# Altium integrated library Peace的集成库.IntLib: 214 symbols (part 2 of 3)
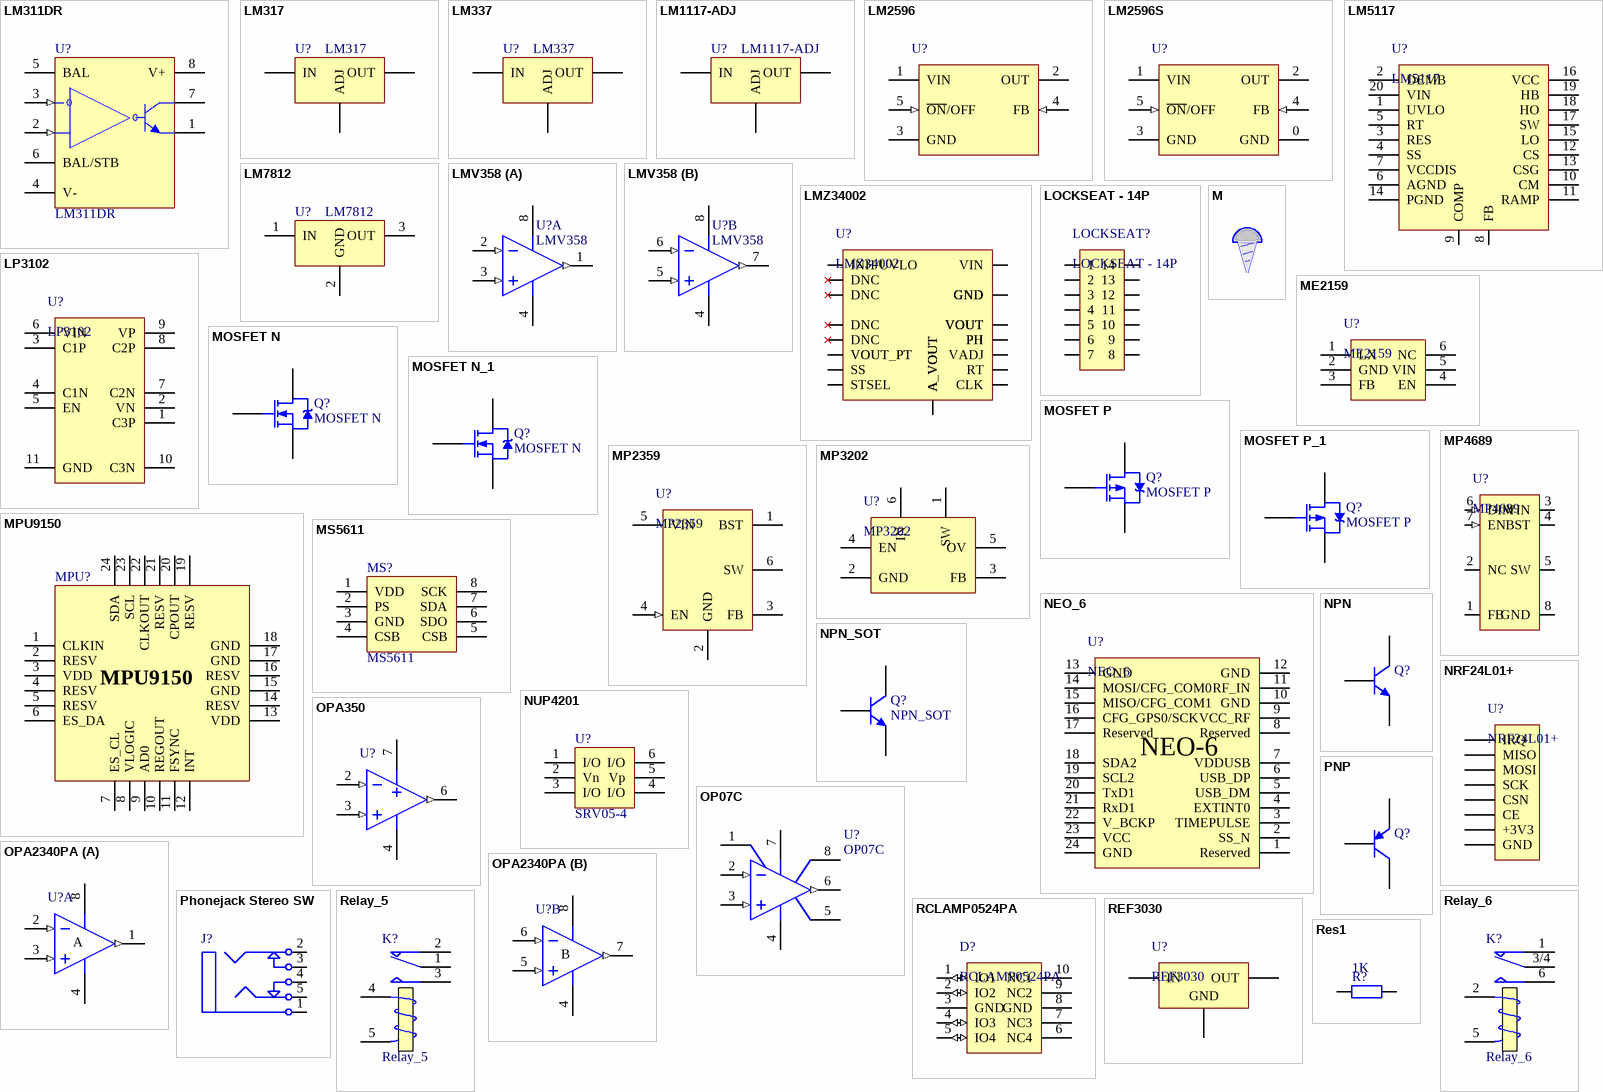
[diagram p9: symbols LM311DR to Res1]

## LM5117
designator U?
footprint TSSOP20_M (TSOP, 20-Leads, Body 6.5x4.4mm, Pitch 0.65mm, IPC Low Density)
pins: 1 UVLO, 2 DEMB, 3 RES, 4 SS, 5 RT, 6 AGND, 7 VCCDIS, 8 FB, 9 COMP, 10 CM, 11 RAMP, 12 CS, 13 CSG, 14 PGND, 15 LO, 16 VCC, 17 SW, 18 HO, 19 HB, 20 VIN

## LM7812
designator U?
footprint TO-220AB (TO, Thru-Hole, Vertical, Heatsink Mounted; 3 In-Line Leads; Pitch 2.54 mm)
pins: 1 IN, 2 GND, 3 OUT

## LMV358
designator U?
General Purpose, Low Voltage, Rail-to-Rail Output Operational Amplifiers, 8-pin Narrow SOIC; PartNumber: LMV358MX; Manufacturer: National Semiconductor; PackageTopMarking: NSZXTT*LMV*358M; PowerWise: N; Published: 1-Mar-2010; DatasheetVersion: Sep-2009; PackageVersion: revM, May-2009; PackageReference: M08A; Publisher: Altium Limited; PackageDescription: SOIC Narrow, 4.9 x 3.9 x 1.45mm, 8 Lead, 1.27mm Pitch; RoHS: N; PinCount: 8; CompType: Amplifiers; Code_JEDEC: MS-012-AA; Code_IPC: SOIC127P600-8; ComponentLink1Description: LMV358 Datasheet; ComponentLink1URL: http://www.national.com/ds/LM/LMV358.pdf; ComponentLink2Description: LMV358 Web Page; ComponentLink2URL: http://www.national.com/pf/LM/LMV358.html; ComponentLink3Description: M08A Package Page; ComponentLink3URL: http://www.national.com/packaging/folders/m08a.html
simulation model LMV358 (SUBCKT)
footprint SOIC8_L (SOIC, 8-Leads, Body 4.9x3.9mm, Pitch 1.27mm, IPC High Density)
footprint SOIC8_M (SOIC, 8-Leads, Body 4.9x3.9mm, Pitch 1.27mm, IPC Low Density)
footprint SOIC8_N (SOIC, 8-Leads, Body 4.9x3.9mm, Pitch 1.27mm, IPC Medium Density)
pins on every part: 4 V- (power), 8 V+ (power)
part A pins: 1 OUTA (out), 2 INA- (in), 3 INA+ (in)
part B pins: 5 INB+ (in), 6 INB- (in), 7 OUTB (out)

## LMZ34002
designator U?
footprint LMZ34002 (QFN, 32-Leads, Body 11.00x9.00mm, Pitch 0.90mm, IPC Low Density)
pins: 1 A_VOUT, 2 DNC, 3 DNC, 4 A_VOUT, 5 A_VOUT, 6 PH, 7 PH, 8 VOUT_PT, 9 VOUT_PT, 10 GND, 11 GND, 12 GND, 13 GND, 14 GND, 15 GND, 16 VOUT, 17 VOUT, 18 VOUT, 19 VOUT, 20 VOUT, 21 PH, 22 PH, 23 PH, 24 PH, 25 DNC, 26 VIN, 27 INH/UVLO, 28 SS, 29 STSEL, 30 RT, 31 CLK, 32 A_VOUT, 33 A_VOUT, 34 A_VOUT, 35 DNC, 36 VADJ, 37 A_VOUT, 38 PH, 39 GND, 40 VOUT, 41 PH

## LOCKSEAT - 14P
designator LOCKSEAT?
footprint LOCKSEAT - 14P
pins: 1, 2, 3, 4, 5, 6, 7, 8, 9, 10, 11, 12, 13, 14

## LP3102
designator U?
footprint LP3102 (SON, 10-Leads, Body 3.00x3.00mm, Pitch 0.50mm, Thermal Pad 2.50x1.49mm, IPC Medium Density)
pins: 1 C3P, 2 VN, 3 C1P, 4 C1N, 5 EN, 6 VIN, 7 C2N, 8 C2P, 9 VP, 10 C3N, 11 GND

## M
designator M?  (value not drawn)
footprint TAPPING HOLE (M3)
footprint 电源底板-小
footprint M2 (M2自攻螺丝)

## ME2159
designator U?
1A 升压DC-DC
footprint SOT23-6_L (SOT23, 6-Leads, Body 2.9x1.6mm, Pitch 0.95mm, Lead Span 2.7mm, IPC High Density)
footprint SOT23-6_M (SOT23, 6-Leads, Body 2.9x1.6mm, Pitch 0.95mm, Lead Span 2.7mm, IPC Low Density)
footprint SOT23-6_N (SOT23, 6-Leads, Body 2.9x1.6mm, Pitch 0.95mm, Lead Span 2.7mm, IPC Medium Density)
pins: 1 LX, 2 GND, 3 FB, 4 EN, 5 VIN, 6 NC

## MOSFET N
designator Q?
HEXFET Power MOSFET; Published: 17-Sep-2003; DatasheetVersion: PD-9.486C; PackageReference: TO-254AA; Publisher: Altium Limited; PackageDescription: TO, Thru-Hole, Vertical, Heatsink Mounted; 3 In-Line Leads; Pitch 3.81 mm; Code_JEDEC: TO-254-AA; ComponentLink1Description: Manufacturer Link; ComponentLink1URL: http://www.irf.com/; ComponentLink2Description: Datasheet; ComponentLink2URL: http://www.irf.com/product-info/datasheets/data/IRFM460.pdf
footprint TO-220AB (TO, Thru-Hole, Vertical, Heatsink Mounted; 3 In-Line Leads; Pitch 2.54 mm)
pins: 1 G, 2 D, 3 S

## MOSFET N_1
designator Q?, comment MOSFET N
HEXFET Power MOSFET; Published: 17-Sep-2003; DatasheetVersion: PD-9.486C; PackageReference: TO-254AA; Publisher: Altium Limited; PackageDescription: TO, Thru-Hole, Vertical, Heatsink Mounted; 3 In-Line Leads; Pitch 3.81 mm; Code_JEDEC: TO-254-AA; ComponentLink1Description: Manufacturer Link; ComponentLink1URL: http://www.irf.com/; ComponentLink2Description: Datasheet; ComponentLink2URL: http://www.irf.com/product-info/datasheets/data/IRFM460.pdf
footprint SOT23_L (SOT23, 3-Leads, Body 2.9x1.3mm, Pitch 0.95mm, Lead Span 2.3mm - Reverse Pinning, IPC High Density)
footprint SOT23_M (SOT23, 3-Leads, Body 2.9x1.3mm, Pitch 0.95mm, Lead Span 2.3mm - Reverse Pinning, IPC Low Density)
footprint SOT23_N (SOT23, 3-Leads, Body 2.9x1.3mm, Pitch 0.95mm, Lead Span 2.3mm - Reverse Pinning, IPC Medium Density)
pins: 1 D, 2 S, 3 G

## MOSFET P
designator Q?
Radiation Hardened HEXFET Power MOSFET; Published: 17-Sep-2003; DatasheetVersion: 13-Jun-2002; PackageVersion: Aug-2001; PackageReference: TO-257AA; Publisher: Altium Limited; PackageDescription: TO, Thru-Hole, Vertical, Heatsink Mounted; 3 In-Line Leads; Pitch 2.54 mm; ComponentLink1Description: Manufacturer Link; ComponentLink1URL: http://www.irf.com/; ComponentLink2Description: Datasheet; ComponentLink2URL: http://www.irf.com/product-info/datasheets/data/irhy9130cm.pdf
footprint TO-220AB (TO, Thru-Hole, Vertical, Heatsink Mounted; 3 In-Line Leads; Pitch 2.54 mm)
pins: 1 G, 2 D, 3 S

## MOSFET P_1
designator Q?, comment MOSFET P
Radiation Hardened HEXFET Power MOSFET; Published: 17-Sep-2003; DatasheetVersion: 13-Jun-2002; PackageVersion: Aug-2001; PackageReference: TO-257AA; Publisher: Altium Limited; PackageDescription: TO, Thru-Hole, Vertical, Heatsink Mounted; 3 In-Line Leads; Pitch 2.54 mm; ComponentLink1Description: Manufacturer Link; ComponentLink1URL: http://www.irf.com/; ComponentLink2Description: Datasheet; ComponentLink2URL: http://www.irf.com/product-info/datasheets/data/irhy9130cm.pdf
footprint SOT23_L (SOT23, 3-Leads, Body 2.9x1.3mm, Pitch 0.95mm, Lead Span 2.3mm - Reverse Pinning, IPC High Density)
footprint SOT23_M (SOT23, 3-Leads, Body 2.9x1.3mm, Pitch 0.95mm, Lead Span 2.3mm - Reverse Pinning, IPC Low Density)
footprint SOT23_N (SOT23, 3-Leads, Body 2.9x1.3mm, Pitch 0.95mm, Lead Span 2.3mm - Reverse Pinning, IPC Medium Density)
pins: 1 D, 2 S, 3 G

## MP2359
designator U?
1.2A, 24V, 1.4MHz异步降压转换器
footprint SOT23-6_L (SOT23, 6-Leads, Body 2.9x1.6mm, Pitch 0.95mm, Lead Span 2.7mm, IPC High Density)
footprint SOT23-6_M (SOT23, 6-Leads, Body 2.9x1.6mm, Pitch 0.95mm, Lead Span 2.7mm, IPC Low Density)
footprint SOT23-6_N (SOT23, 6-Leads, Body 2.9x1.6mm, Pitch 0.95mm, Lead Span 2.7mm, IPC Medium Density)
pins: 1 BST, 2 GND (power), 3 FB, 4 EN (in), 5 VIN (power), 6 SW

## MP3202
designator U?
1.3A LED驱动(3串13并)
footprint SOT23-6_L (SOT23, 6-Leads, Body 2.9x1.6mm, Pitch 0.95mm, Lead Span 2.7mm, IPC High Density)
footprint SOT23-6_M (SOT23, 6-Leads, Body 2.9x1.6mm, Pitch 0.95mm, Lead Span 2.7mm, IPC Low Density)
footprint SOT23-6_N (SOT23, 6-Leads, Body 2.9x1.6mm, Pitch 0.95mm, Lead Span 2.7mm, IPC Medium Density)
pins: 1 SW, 2 GND, 3 FB, 4 EN, 5 OV, 6 IN

## MP4689
designator U?
footprint SOIC8_L (SOIC, 8-Leads, Body 4.9x3.9mm, Pitch 1.27mm, IPC High Density)
footprint SOIC8_M (SOIC, 8-Leads, Body 4.9x3.9mm, Pitch 1.27mm, IPC Low Density)
footprint SOIC8_N (SOIC, 8-Leads, Body 4.9x3.9mm, Pitch 1.27mm, IPC Medium Density)
pins: 1 FB, 2 NC, 3 VIN (power), 4 BST, 5 SW, 6 DIM (in), 7 EN (in), 8 GND (power)

## MPU9150
designator MPU?
Sensor
footprint MPU9150
pins: 1 CLKIN, 2 RESV, 3 VDD, 4 RESV, 5 RESV, 6 ES_DA, 7 ES_CL, 8 VLOGIC, 9 AD0, 10 REGOUT, 11 FSYNC, 12 INT, 13 VDD, 14 RESV, 15 GND, 16 RESV, 17 GND, 18 GND, 19 RESV, 20 CPOUT, 21 RESV, 22 CLKOUT, 23 SCL, 24 SDA

## MS5611
designator MS?
Sensor
footprint MS5611
pins: 1 VDD, 2 PS, 3 GND, 4 CSB, 5 CSB, 6 SDO, 7 SDA, 8 SCK

## NEO_6
designator U?
footprint NEO_6
pins: 1 Reserved, 2 SS_N, 3 TIMEPULSE, 4 EXTINT0, 5 USB_DM, 6 USB_DP, 7 VDDUSB, 8 Reserved, 9 VCC_RF, 10 GND, 11 RF_IN, 12 GND, 13 GND, 14 MOSI/CFG_COM0, 15 MISO/CFG_COM1, 16 CFG_GPS0/SCK, 17 Reserved, 18 SDA2, 19 SCL2, 20 TxD1, 21 RxD1, 22 V_BCKP, 23 VCC, 24 GND
text: NEO-6

## NPN
designator Q?
NPN Bipolar Transistor; Published: 8-Jun-2000; LatestRevisionDate: 17-Jul-2002; LatestRevisionNote: Re-released for DXP Platform.; PackageReference: TO-226-AA; Publisher: Altium Limited; PackageDescription: TO, Flat Index; 3 In-Line, Axial Leads; Body Dia. 4.8mm; Leads 0.55 x 0.51 mm (max); Code_JEDEC: TO-226-AA
simulation model NPN
signal-integrity model NPN
footprint TO-226-AA (TO, Flat Index; 3 In-Line, Axial Leads; Body Dia. 4.8mm; Leads 0.55 x 0.51 mm (max))
pins: 1 E, 2 B, 3 C

## NPN_SOT
designator Q?
NPN Bipolar Transistor; Published: 8-Jun-2000; LatestRevisionDate: 17-Jul-2002; LatestRevisionNote: Re-released for DXP Platform.; PackageReference: TO-226-AA; Publisher: Altium Limited; PackageDescription: TO, Flat Index; 3 In-Line, Axial Leads; Body Dia. 4.8mm; Leads 0.55 x 0.51 mm (max); Code_JEDEC: TO-226-AA
footprint SOT23_L (SOT23, 3-Leads, Body 2.9x1.3mm, Pitch 0.95mm, Lead Span 2.3mm - Reverse Pinning, IPC High Density)
footprint SOT23_M (SOT23, 3-Leads, Body 2.9x1.3mm, Pitch 0.95mm, Lead Span 2.3mm - Reverse Pinning, IPC Low Density)
footprint SOT23_N (SOT23, 3-Leads, Body 2.9x1.3mm, Pitch 0.95mm, Lead Span 2.3mm - Reverse Pinning, IPC Medium Density)
pins: 1 C, 2 E, 3 B

## NRF24L01+
designator U?
footprint NRF24L01+
footprint NRF24L01
footprint NRF24L01_YBT (亿佰特E01-ML01DP5)
pins: 1 GND, 2 +3V3, 3 CE, 4 CSN, 5 SCK, 6 MOSI, 7 MISO, 8 IRQ

## NUP4201
designator U?, comment SRV05-4
footprint SOT23-6_L (SOT23, 6-Leads, Body 2.9x1.6mm, Pitch 0.95mm, Lead Span 2.7mm, IPC High Density)
footprint SOT23-6_M (SOT23, 6-Leads, Body 2.9x1.6mm, Pitch 0.95mm, Lead Span 2.7mm, IPC Low Density)
footprint SOT23-6_N (SOT23, 6-Leads, Body 2.9x1.6mm, Pitch 0.95mm, Lead Span 2.7mm, IPC Medium Density)
pins: 1 I/O, 2 Vn, 3 I/O, 4 I/O, 5 Vp, 6 I/O

## OP07C
designator U?
Ultra-Low Offset Voltage Operational Amplifier; Note: Pin 5 is not connected.; Published: 8-Jun-2000; LatestRevisionDate: 13-Apr-2006; LatestRevisionNote: IPC-7351 Footprint Added.; DatasheetVersion: 1992; PackageVersion: revA; PackageReference: SO-8; Publisher: Altium Limited; PackageDescription: 8-Pin Small Outline Integrated Circuit 1.27 mm Pitch; Code_JEDEC: MS-012-AA; Code_IPC: SOIC127P600-8; ComponentLink1Description: Manufacturer Link; ComponentLink1URL: http://www.analog.com/en/prod/0,,759_786_OP07%2C00.html; ComponentLink2Description: Datasheet; ComponentLink2URL: http://www.analog.com/UploadedFiles/Data_Sheets/39161232478959OP07_c.pdf
footprint SOIC8_L (SOIC, 8-Leads, Body 4.9x3.9mm, Pitch 1.27mm, IPC High Density)
footprint SOIC8_M (SOIC, 8-Leads, Body 4.9x3.9mm, Pitch 1.27mm, IPC Low Density)
footprint SOIC8_N (SOIC, 8-Leads, Body 4.9x3.9mm, Pitch 1.27mm, IPC Medium Density)
pins: 1 VOSTRIM, 2 IN- (in), 3 IN+ (in), 4 V- (power), 5 NC, 6 OUT (out), 7 V+ (power), 8 VOSTRIM

## OPA350
designator U?  (value not drawn)
footprint SOIC8_L (SOIC, 8-Leads, Body 4.9x3.9mm, Pitch 1.27mm, IPC High Density)
footprint SOIC8_N (SOIC, 8-Leads, Body 4.9x3.9mm, Pitch 1.27mm, IPC Medium Density)
footprint SOIC8_M (SOIC, 8-Leads, Body 4.9x3.9mm, Pitch 1.27mm, IPC Low Density)
pins: 2 IN- (in), 3 IN+ (in), 4 V- (power), 6 OUT (out), 7 V+ (power)

## OPA2340PA
designator U?  (value not drawn)
footprint DIP-8 (width 7.62mm)
part A pins: 1 OUT (out), 2 IN- (in), 3 IN+ (in), 4 V- (power), 8 V+ (power)
part B pins: 4 V- (power), 5 IN+ (in), 6 IN- (in), 7 OUT (out), 8 V+ (power)
part A text: A
part B text: B

## Phonejack Stereo SW
designator J?
3-Conductor Jack with 2 break contacts (normals) and 2 auxiliary make contacts; Published: 5-Jan-2004; LatestRevisionDate: 17-Dec-2003; LatestRevisionNote: PCB Footprint replaced.; DatasheetDocument: 07-Mar-2000; Publisher: Altium Limited; ComponentLink1Description: Manufacturer Link; ComponentLink1URL: http://domino.kycon.com/internet/Products.html
signal-integrity model Connector
footprint 3.5mm音频插口
pins: 1, 2, 3, 4, 5

## PNP
designator Q?
PNP Bipolar Transistor; Published: 8-Jun-2000; LatestRevisionDate: 29-May-2009; LatestRevisionNote: IPC-7351 Footprint Added.; PackageVersion: Aug-1999; PackageReference: SOT-23B; Publisher: Altium Limited; PackageDescription: 3-Pin SOT-23 Package 0.95 mm Pitch, 2.4 mm Lead Span
simulation model PNP
signal-integrity model PNP
footprint TO-226-AA (TO, Flat Index; 3 In-Line, Axial Leads; Body Dia. 4.8mm; Leads 0.55 x 0.51 mm (max))
pins: 1 E, 2 B, 3 C

## RCLAMP0524PA
designator D?
footprint SLP2510P8
pins: 1 IO1 (io), 2 IO2 (io), 3 GND (power), 4 IO3 (io), 5 IO4 (io), 6 NC4 (power), 7 NC3 (power), 8 GND (power), 9 NC2 (power), 10 NC1 (power)

## REF3030
designator U?
footprint SOT23_L (SOT23, 3-Leads, Body 2.9x1.3mm, Pitch 0.95mm, Lead Span 2.3mm - Reverse Pinning, IPC High Density)
footprint SOT23_M (SOT23, 3-Leads, Body 2.9x1.3mm, Pitch 0.95mm, Lead Span 2.3mm - Reverse Pinning, IPC Low Density)
footprint SOT23_N (SOT23, 3-Leads, Body 2.9x1.3mm, Pitch 0.95mm, Lead Span 2.3mm - Reverse Pinning, IPC Medium Density)
pins: 1 GND (power), 2 OUT (power), 3 IN (power)

## Relay_5
designator K?
SPDT Relay; Published: 8-Jun-2000; LatestRevisionDate: 17-Jul-2002; LatestRevisionNote: Re-released for DXP Platform.; PackageReference: MODULE5B; Publisher: Altium Limited
footprint relay19X15.5 (19X15.5)
pins: 1 COM, 2 NC, 3 NO, 4 T1, 5 T2

## Relay_6
designator K?
SPDT Relay; Published: 8-Jun-2000; LatestRevisionDate: 17-Jul-2002; LatestRevisionNote: Re-released for DXP Platform.; PackageReference: MODULE5B; Publisher: Altium Limited
footprint relay15.5X10.5 (15.5X10.5)
pins: 1 NC, 2 T1, 3 COM, 4 COM, 5 T2, 6 NO
text: 3/4

## Res1
designator R?  value 1K  (hidden comment: Res1)
Resistor; Published: 8-Jun-2000; LatestRevisionDate: 17-Jul-2002; LatestRevisionNote: Re-released for DXP Platform.; PackageReference: AXIAL-0.4; Publisher: Altium Limited
footprint RESC2012M (Chip Resistor, Body 2.0x1.2mm, IPC Low Density)
footprint RESC2012L (Chip Resistor, Body 2.0x1.2mm, IPC Low Density)
footprint RESC2012N (Chip Resistor, Body 2.0x1.2mm, IPC Low Density)
footprint RESC1005L (Chip Resistor, Body 1.1x0.5mm, IPC High Density)
footprint RESC1005M (Chip Resistor, Body 1.1x0.5mm, IPC Low Density)
footprint RESC1005N (Chip Resistor, Body 1.1x0.5mm, IPC Medium Density)
footprint RESC1608L (Chip Resistor, Body 1.6x0.8mm, IPC High Density)
footprint RESC1608M (Chip Resistor, Body 1.6x0.8mm, IPC Low Density)
footprint RESC1608N (Chip Resistor, Body 1.6x0.8mm, IPC Medium Density)
footprint RESC3216L (Chip Resistor, Body 3.2x1.6mm, IPC High Density)
footprint RESC3216M (Chip Resistor, Body 3.2x1.6mm, IPC Low Density)
footprint RESC3216N (Chip Resistor, Body 3.2x1.6mm, IPC Medium Density)
footprint RES0204
footprint RES2512
footprint RESC1005L-0.5 (Chip Resistor, Body 1.1x0.5mm, IPC High Density)
pins: 1, 2

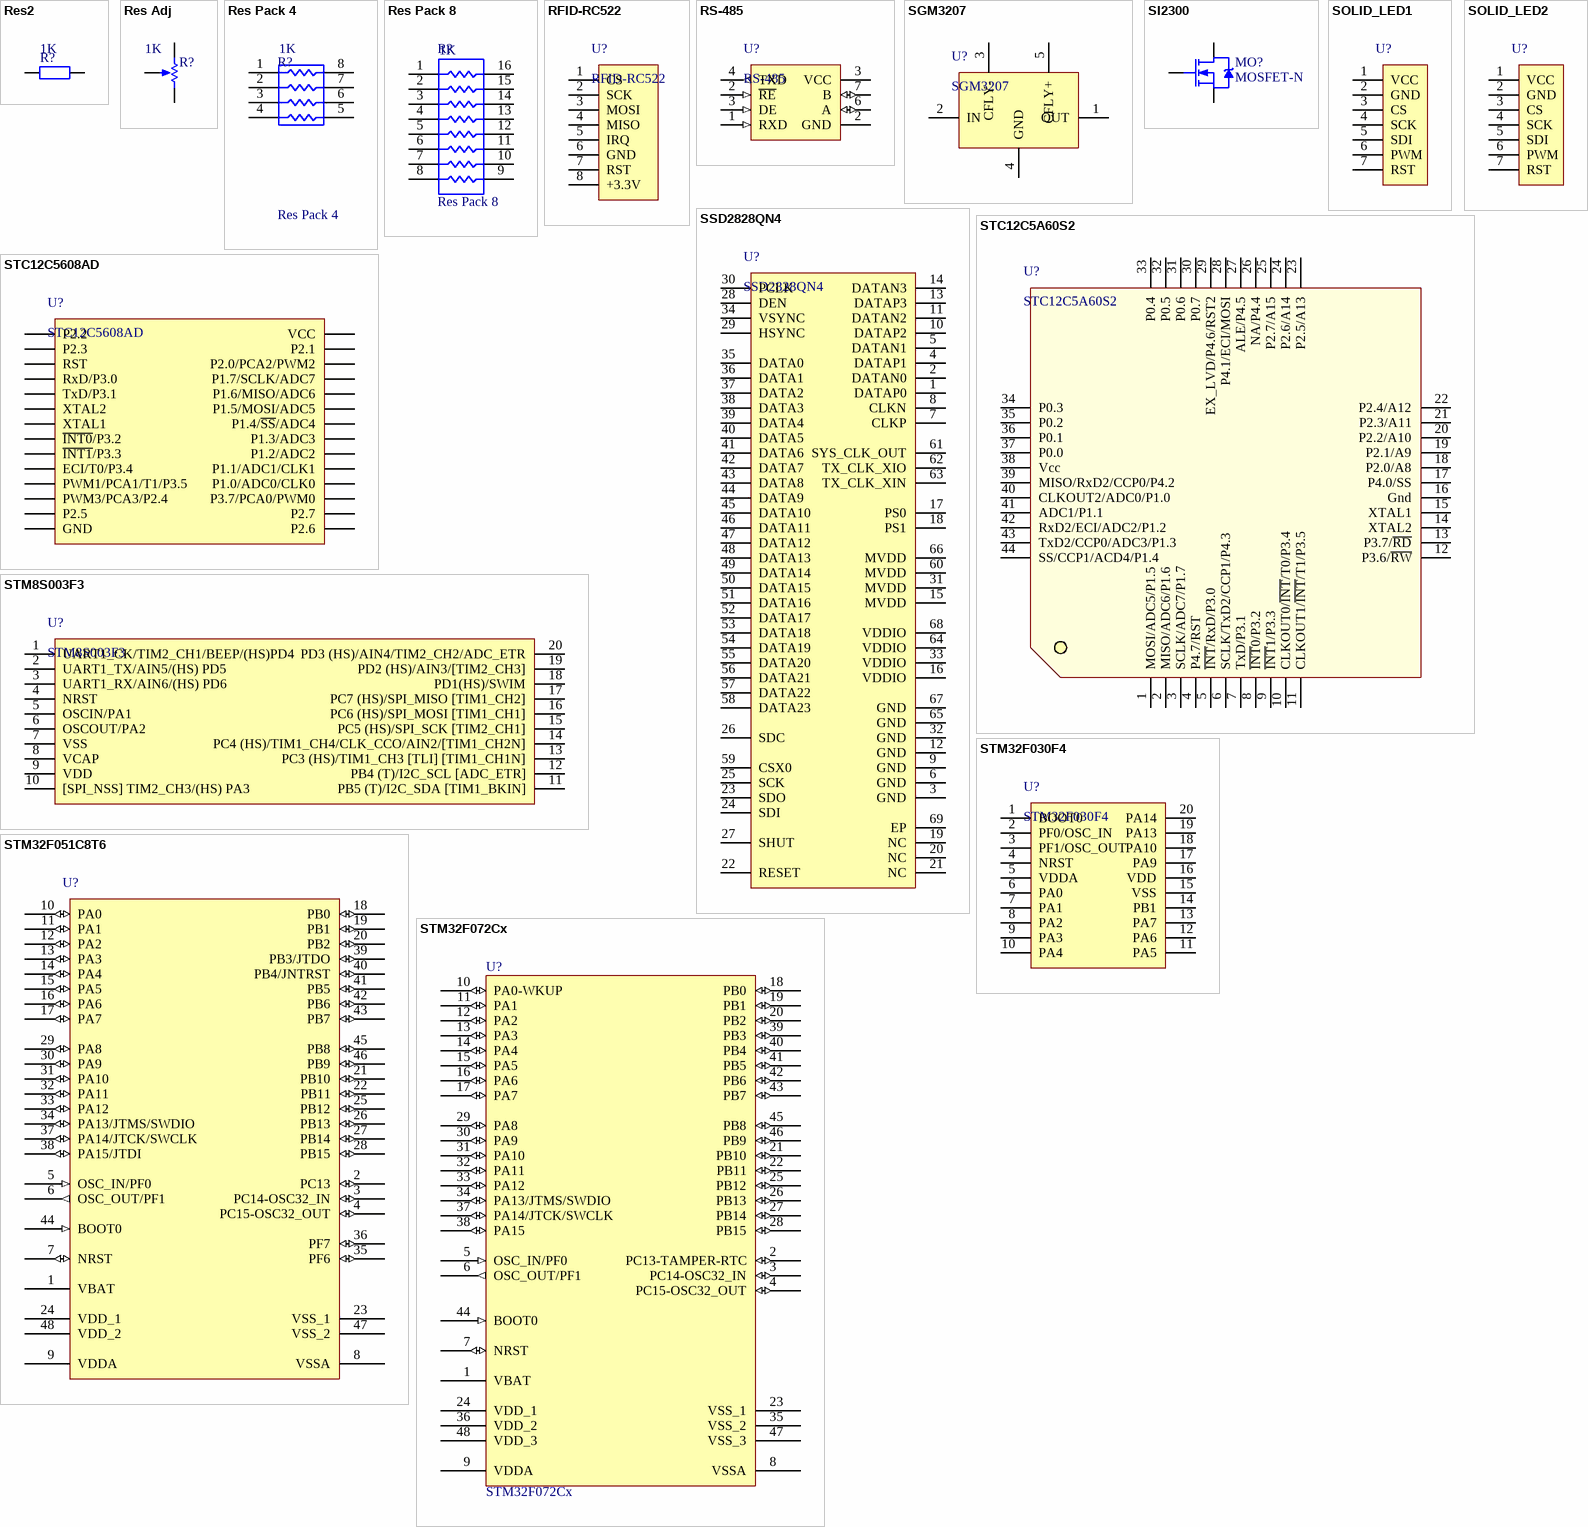
[diagram p4: symbols Res2 to STM32F072Cx]

## Res2
designator R?  value 1K  (hidden comment: Res2)
Resistor; Published: 8-Jun-2000; LatestRevisionDate: 17-Jul-2002; LatestRevisionNote: Re-released for DXP Platform.; PackageReference: AXIAL-0.4; Publisher: Altium Limited
footprint AXIAL-0.3 (Axial Device, Thru-Hole; 2 Leads; 0.3 in Pin Spacing)
footprint RES-5W
footprint 康铜丝10-20mm
footprint 康铜丝10mm
footprint 康铜丝15mm
footprint 康铜丝20mm
pins: 1, 2

## Res Adj
designator R?  value 1K  (hidden comment: Res Adj)
Potentiometer; Sim Note: Enter the Resistance value and the set point into parameter fields.; Set Position: 0.5; Published: 8-Jun-2000; LatestRevisionDate: 17-Jul-2002; LatestRevisionNote: Re-released for DXP Platform.; PackageReference: VR5; Publisher: Altium Limited
footprint VR5 (Variable Resistor, Thru-Hole; 3 Leads)
simulation model POT (Potentiometer)
pins: 1 TOP, 2 TAP, 3 BOT
1 alternate drawing of the same symbol

## Res Pack 4
designator R?  value 1K
Isolated Resistor Network; Published: 24-Mar-1999; LatestRevisionDate: 29-May-2009; LatestRevisionNote: IPC-7351 Footprint Added.; PackageReference: SO-16; Publisher: Altium Limited; PackageDescription: 16-Pin Small Outline Integrated Circuit 1.27 mm Pitch; Code_JEDEC: MS-012-AC; Code_IPC: SOIC127P600-16
footprint RESC0603_4
pins: 1, 2, 3, 4, 5, 6, 7, 8

## Res Pack 8
designator R?  value 1K
Isolated Resistor Network; Published: 24-Mar-1999; LatestRevisionDate: 29-May-2009; LatestRevisionNote: IPC-7351 Footprint Added.; PackageReference: SO-16; Publisher: Altium Limited; PackageDescription: 16-Pin Small Outline Integrated Circuit 1.27 mm Pitch; Code_JEDEC: MS-012-AC; Code_IPC: SOIC127P600-16
pins: 1, 2, 3, 4, 5, 6, 7, 8, 9, 10, 11, 12, 13, 14, 15, 16

## RFID-RC522
designator U?
footprint RFID-RC522 (RC522模块)
pins: 1 CS, 2 SCK, 3 MOSI, 4 MISO, 5 IRQ, 6 GND, 7 RST, 8 +3.3V

## RS-485
designator U?
RS-485收发器
footprint SOIC8_L (SOIC, 8-Leads, Body 4.9x3.9mm, Pitch 1.27mm, IPC High Density)
footprint SOIC8_M (SOIC, 8-Leads, Body 4.9x3.9mm, Pitch 1.27mm, IPC Low Density)
footprint SOIC8_N (SOIC, 8-Leads, Body 4.9x3.9mm, Pitch 1.27mm, IPC Medium Density)
pins: 1 RXD (in), 2 GND (power), 2 ~{RE} (in), 3 VCC (power), 3 DE (in), 4 TXD (out), 6 A (io), 7 B (io)

## SGM3207
designator U?
60mA电荷泵
footprint SOT23-5_L (SOT23, 5-Leads, Body 2.9x1.6mm, Pitch 0.95mm, Lead Span 2.8mm, IPC High Density)
footprint SOT23-5_M (SOT23, 5-Leads, Body 2.9x1.6mm, Pitch 0.95mm, Lead Span 2.8mm, IPC Low Density)
footprint SOT23-5_N (SOT23, 5-Leads, Body 2.9x1.6mm, Pitch 0.95mm, Lead Span 2.8mm, IPC Medium Density)
pins: 1 OUT, 2 IN, 3 CFLY-, 4 GND, 5 CFLY+

## SI2300
designator MO?, comment MOSFET-N
footprint SOT23_L (SOT23, 3-Leads, Body 2.9x1.3mm, Pitch 0.95mm, Lead Span 2.3mm - Reverse Pinning, IPC High Density)
footprint SOT23_M (SOT23, 3-Leads, Body 2.9x1.3mm, Pitch 0.95mm, Lead Span 2.3mm - Reverse Pinning, IPC Low Density)
footprint SOT23_N (SOT23, 3-Leads, Body 2.9x1.3mm, Pitch 0.95mm, Lead Span 2.3mm - Reverse Pinning, IPC Medium Density)
pins: 1 D, 2 S, 3 G

## SOLID_LED1
designator U?  (value not drawn)
footprint SOLID_LED1 (Footprint not found)
pins: 1 VCC, 2 GND, 3 CS, 4 SCK, 5 SDI, 6 PWM, 7 RST

## SOLID_LED2
designator U?  (value not drawn)
footprint SOLID_LED2 (Footprint not found)
pins: 1 VCC, 2 GND, 3 CS, 4 SCK, 5 SDI, 6 PWM, 7 RST

## SSD2828QN4
designator U?
RGB转MIPI桥接芯片
footprint QN68_L (QFN, 68-Leads, Body 8x8 mm, Pitch 0.4mm, IPC High Density)
footprint QN68_M (QFN, 68-Leads, Body 8x8 mm, Pitch 0.4mm, IPC Low Density)
footprint QN68_N (QFN, 68-Leads, Body 8x8 mm, Pitch 0.4mm, IPC Medium Density)
pins: 1 DATAP0, 2 DATAN0, 3 GND, 4 DATAP1, 5 DATAN1, 6 GND, 7 CLKP, 8 CLKN, 9 GND, 10 DATAP2, 11 DATAN2, 12 GND, 13 DATAP3, 14 DATAN3, 15 MVDD, 16 VDDIO, 17 PS0, 18 PS1, 19 NC, 20 NC, 21 NC, 22 RESET, 23 SDO, 24 SDI, 25 SCK, 26 SDC, 27 SHUT, 28 DEN, 29 HSYNC, 30 PCLK, 31 MVDD, 32 GND, 33 VDDIO, 34 VSYNC, 35 DATA0, 36 DATA1, 37 DATA2, 38 DATA3, 39 DATA4, 40 DATA5, 41 DATA6, 42 DATA7, 43 DATA8, 44 DATA9, 45 DATA10, 46 DATA11, 47 DATA12, 48 DATA13, 49 DATA14, 50 DATA15, 51 DATA16, 52 DATA17, 53 DATA18, 54 DATA19, 55 DATA20, 56 DATA21, 57 DATA22, 58 DATA23, 59 CSX0, 60 MVDD, 61 SYS_CLK_OUT, 62 TX_CLK_XIO, 63 TX_CLK_XIN, 64 VDDIO, 65 GND, 66 MVDD, 67 GND, 68 VDDIO, 69 EP

## STC12C5A60S2
designator U?
footprint TQFP44_N (44-Pin Plastic Thin Quad Flat Pack (TFQP44), IPC Medium Density)
pins: 1 MOSI/ADC5/P1.5, 2 MISO/ADC6/P1.6, 3 SCLK/ADC7/P1.7, 4 P4.7/RST, 5 ~{INT}/RxD/P3.0, 6 SCLK/TxD2/CCP1/P4.3, 7 TxD/P3.1, 8 ~{INT}0/P3.2, 9 ~{INT}1/P3.3, 10 CLKOUT0/~{INT}/T0/P3.4, 11 CLKOUT1/~{INT}/T1/P3.5, 12 P3.6/~{RW}, 13 P3.7/~{RD}, 14 XTAL2, 15 XTAL1, 16 Gnd, 17 P4.0/SS, 18 P2.0/A8, 19 P2.1/A9, 20 P2.2/A10, 21 P2.3/A11, 22 P2.4/A12, 23 P2.5/A13, 24 P2.6/A14, 25 P2.7/A15, 26 NA/P4.4, 27 ALE/P4.5, 28 P4.1/ECI/MOSI, 29 EX_LVD/P4.6/RST2, 30 P0.7, 31 P0.6, 32 P0.5, 33 P0.4, 34 P0.3, 35 P0.2, 36 P0.1, 37 P0.0, 38 Vcc, 39 MISO/RxD2/CCP0/P4.2, 40 CLKOUT2/ADC0/P1.0, 41 ADC1/P1.1, 42 RxD2/ECI/ADC2/P1.2, 43 TxD2/CCP0/ADC3/P1.3, 44 SS/CCP1/ACD4/P1.4

## STC12C5608AD
designator U?
footprint SOP28 (Small Outline; 28 Leads; Body Width 9.1 mm; Pitch 1.27 mm)
pins: 1 P2.2, 2 P2.3, 3 RST, 4 RxD/P3.0, 5 TxD/P3.1, 6 XTAL2, 7 XTAL1, 8 ~{INT0}/P3.2, 9 ~{INT1}/P3.3, 10 ECI/T0/P3.4, 11 PWM1/PCA1/T1/P3.5, 12 PWM3/PCA3/P2.4, 13 P2.5, 14 GND, 15 P2.6, 16 P2.7, 17 P3.7/PCA0/PWM0, 18 P1.0/ADC0/CLK0, 19 P1.1/ADC1/CLK1, 20 P1.2/ADC2, 21 P1.3/ADC3, 22 P1.4/~{SS}/ADC4, 23 P1.5/MOSI/ADC5, 24 P1.6/MISO/ADC6, 25 P1.7/SCLK/ADC7, 26 P2.0/PCA2/PWM2, 27 P2.1, 28 VCC

## STM8S003F3
designator U?
footprint TSSOP20_L (TSOP, 20-Leads, Body 6.5x4.4mm, Pitch 0.65mm, IPC High Density)
footprint TSSOP20_M (TSOP, 20-Leads, Body 6.5x4.4mm, Pitch 0.65mm, IPC Low Density)
footprint TSSOP20_N (TSOP, 20-Leads, Body 6.5x4.4mm, Pitch 0.65mm, IPC Medium Density)
pins: 1 UART1_CK/TIM2_CH1/BEEP/(HS)PD4, 2 UART1_TX/AIN5/(HS) PD5, 3 UART1_RX/AIN6/(HS) PD6, 4 NRST, 5 OSCIN/PA1, 6 OSCOUT/PA2, 7 VSS, 8 VCAP, 9 VDD, 10 [SPI_NSS] TIM2_CH3/(HS) PA3, 11 PB5 (T)/I2C_SDA [TIM1_BKIN], 12 PB4 (T)/I2C_SCL [ADC_ETR], 13 PC3 (HS)/TIM1_CH3 [TLI] [TIM1_CH1N], 14 PC4 (HS)/TIM1_CH4/CLK_CCO/AIN2/[TIM1_CH2N], 15 PC5 (HS)/SPI_SCK [TIM2_CH1], 16 PC6 (HS)/SPI_MOSI [TIM1_CH1], 17 PC7 (HS)/SPI_MISO [TIM1_CH2], 18 PD1(HS)/SWIM, 19 PD2 (HS)/AIN3/[TIM2_CH3], 20 PD3 (HS)/AIN4/TIM2_CH2/ADC_ETR

## STM32F030F4
designator U?
footprint TSSOP20_L (TSOP, 20-Leads, Body 6.5x4.4mm, Pitch 0.65mm, IPC High Density)
footprint TSSOP20_M (TSOP, 20-Leads, Body 6.5x4.4mm, Pitch 0.65mm, IPC Low Density)
footprint TSSOP20_N (TSOP, 20-Leads, Body 6.5x4.4mm, Pitch 0.65mm, IPC Medium Density)
pins: 1 BOOT0, 2 PF0/OSC_IN, 3 PF1/OSC_OUT, 4 NRST, 5 VDDA, 6 PA0, 7 PA1, 8 PA2, 9 PA3, 10 PA4, 11 PA5, 12 PA6, 13 PA7, 14 PB1, 15 VSS, 16 VDD, 17 PA9, 18 PA10, 19 PA13, 20 PA14

## STM32F051C8T6
designator U?
STM32 ARM-based 32-bit MCU with 64 Kbytes Flash, 48-pin LQFP, Industrial Temperature; Published: 30-May-2008; DatasheetVersion: rev6, Mar-2008; PackageVersion: Mar-2008; PackageReference: LQFP48; Publisher: Altium Limited; PackageDescription: 48-Pin Low-Profile Quad Flat Pack, 7 x 7 mm Body, 0.5 mm Pitch (LQFP48); ComponentLink1Description: Manufacturer Link; ComponentLink1URL: www.st.com/stm32; ComponentLink2Description: Datasheet; ComponentLink2URL: http://www.st.com/stonline/products/literature/ds/13587.pdf
footprint LQFP48_L (Thin QFP, 48-Leads, Body 7x7mm, Pitch 0.5mm, IPC High Density)
footprint LQFP48_M (Thin QFP, 48-Leads, Body 7x7mm, Pitch 0.5mm, IPC Low Density)
footprint LQFP48_N (Thin QFP, 48-Leads, Body 7x7mm, Pitch 0.5mm, IPC Medium Density)
pins: 1 VBAT (power), 2 PC13 (io), 3 PC14-OSC32_IN (io), 4 PC15-OSC32_OUT (io), 5 OSC_IN/PF0 (in), 6 OSC_OUT/PF1 (out), 7 NRST (io), 8 VSSA (power), 9 VDDA (power), 10 PA0 (io), 11 PA1 (io), 12 PA2 (io), 13 PA3 (io), 14 PA4 (io), 15 PA5 (io), 16 PA6 (io), 17 PA7 (io), 18 PB0 (io), 19 PB1 (io), 20 PB2 (io), 21 PB10 (io), 22 PB11 (io), 23 VSS_1 (power), 24 VDD_1 (power), 25 PB12 (io), 26 PB13 (io), 27 PB14 (io), 28 PB15 (io), 29 PA8 (io), 30 PA9 (io), 31 PA10 (io), 32 PA11 (io), 33 PA12 (io), 34 PA13/JTMS/SWDIO (io), 35 PF6 (io), 36 PF7 (io), 37 PA14/JTCK/SWCLK (io), 38 PA15/JTDI (io), 39 PB3/JTDO (io), 40 PB4/JNTRST (io), 41 PB5 (io), 42 PB6 (io), 43 PB7 (io), 44 BOOT0 (in), 45 PB8 (io), 46 PB9 (io), 47 VSS_2 (power), 48 VDD_2 (power)

## STM32F072Cx
designator U?
STM32 ARM-based 32-bit MCU with 64 Kbytes Flash, 48-pin LQFP, Industrial Temperature; Published: 30-May-2008; DatasheetVersion: rev6, Mar-2008; PackageVersion: Mar-2008; PackageReference: LQFP48; Publisher: Altium Limited; PackageDescription: 48-Pin Low-Profile Quad Flat Pack, 7 x 7 mm Body, 0.5 mm Pitch (LQFP48); ComponentLink1Description: Manufacturer Link; ComponentLink1URL: www.st.com/stm32; ComponentLink2Description: Datasheet; ComponentLink2URL: http://www.st.com/stonline/products/literature/ds/13587.pdf
footprint LQFP48_L (Thin QFP, 48-Leads, Body 7x7mm, Pitch 0.5mm, IPC High Density)
footprint LQFP48_M (Thin QFP, 48-Leads, Body 7x7mm, Pitch 0.5mm, IPC Low Density)
footprint LQFP48_N (Thin QFP, 48-Leads, Body 7x7mm, Pitch 0.5mm, IPC Medium Density)
pins: 1 VBAT (power), 2 PC13-TAMPER-RTC (io), 3 PC14-OSC32_IN (io), 4 PC15-OSC32_OUT (io), 5 OSC_IN/PF0 (in), 6 OSC_OUT/PF1 (out), 7 NRST (io), 8 VSSA (power), 9 VDDA (power), 10 PA0-WKUP (io), 11 PA1 (io), 12 PA2 (io), 13 PA3 (io), 14 PA4 (io), 15 PA5 (io), 16 PA6 (io), 17 PA7 (io), 18 PB0 (io), 19 PB1 (io), 20 PB2 (io), 21 PB10 (io), 22 PB11 (io), 23 VSS_1 (power), 24 VDD_1 (power), 25 PB12 (io), 26 PB13 (io), 27 PB14 (io), 28 PB15 (io), 29 PA8 (io), 30 PA9 (io), 31 PA10 (io), 32 PA11 (io), 33 PA12 (io), 34 PA13/JTMS/SWDIO (io), 35 VSS_2 (power), 36 VDD_2 (power), 37 PA14/JTCK/SWCLK (io), 38 PA15 (io), 39 PB3 (io), 40 PB4 (io), 41 PB5 (io), 42 PB6 (io), 43 PB7 (io), 44 BOOT0 (in), 45 PB8 (io), 46 PB9 (io), 47 VSS_3 (power), 48 VDD_3 (power)

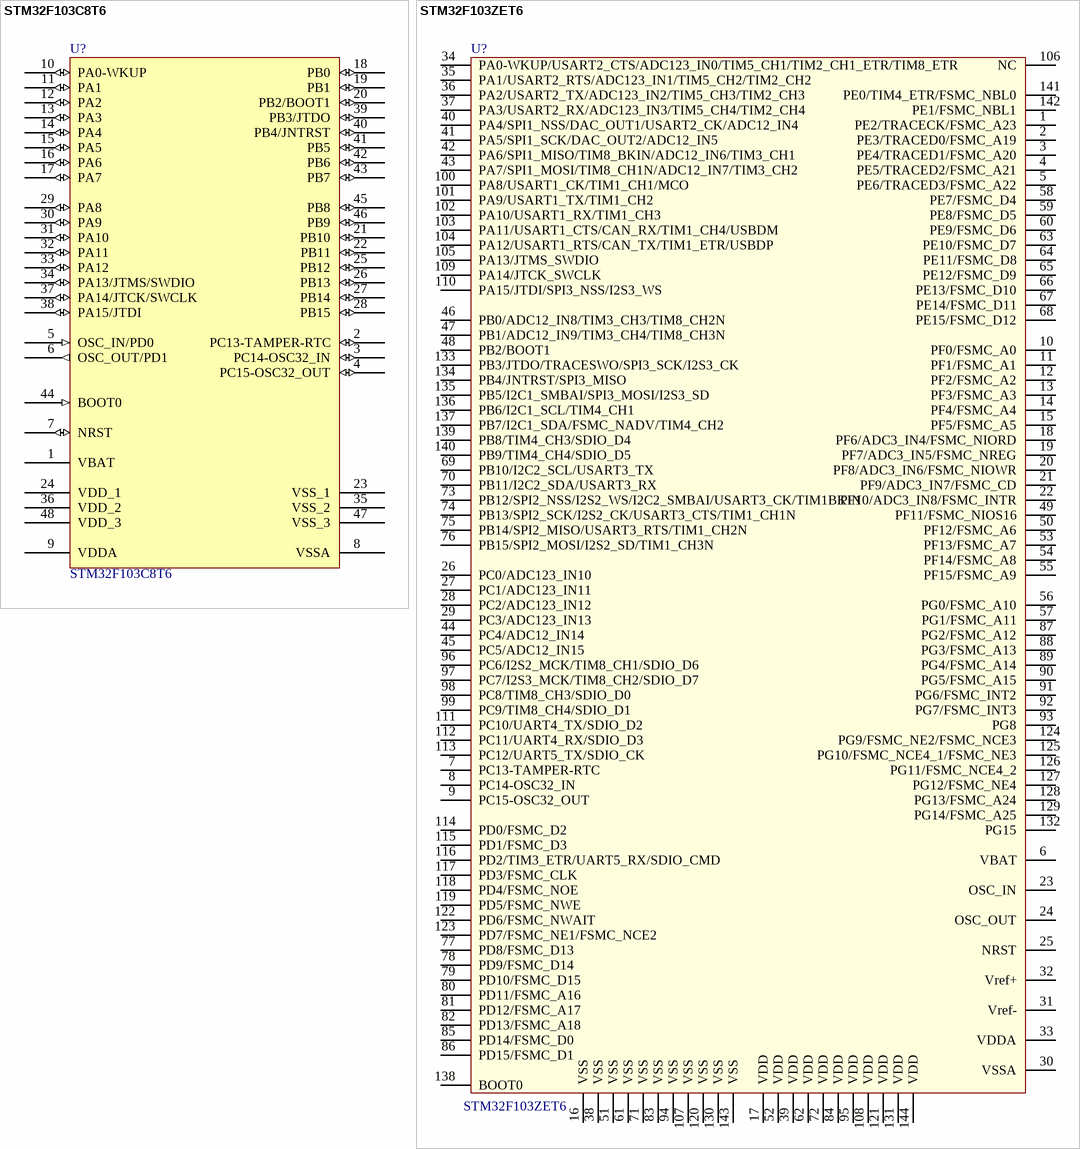
[diagram p5: symbols STM32F103C8T6 to STM32F103ZET6]

## STM32F103C8T6
designator U?
STM32 ARM-based 32-bit MCU with 64 Kbytes Flash, 48-pin LQFP, Industrial Temperature; Published: 30-May-2008; DatasheetVersion: rev6, Mar-2008; PackageVersion: Mar-2008; PackageReference: LQFP48; Publisher: Altium Limited; PackageDescription: 48-Pin Low-Profile Quad Flat Pack, 7 x 7 mm Body, 0.5 mm Pitch (LQFP48); ComponentLink1Description: Manufacturer Link; ComponentLink1URL: www.st.com/stm32; ComponentLink2Description: Datasheet; ComponentLink2URL: http://www.st.com/stonline/products/literature/ds/13587.pdf
footprint LQFP48_L (Thin QFP, 48-Leads, Body 7x7mm, Pitch 0.5mm, IPC High Density)
footprint LQFP48_M (Thin QFP, 48-Leads, Body 7x7mm, Pitch 0.5mm, IPC Low Density)
footprint LQFP48_N (Thin QFP, 48-Leads, Body 7x7mm, Pitch 0.5mm, IPC Medium Density)
pins: 1 VBAT (power), 2 PC13-TAMPER-RTC (io), 3 PC14-OSC32_IN (io), 4 PC15-OSC32_OUT (io), 5 OSC_IN/PD0 (in), 6 OSC_OUT/PD1 (out), 7 NRST (io), 8 VSSA (power), 9 VDDA (power), 10 PA0-WKUP (io), 11 PA1 (io), 12 PA2 (io), 13 PA3 (io), 14 PA4 (io), 15 PA5 (io), 16 PA6 (io), 17 PA7 (io), 18 PB0 (io), 19 PB1 (io), 20 PB2/BOOT1 (io), 21 PB10 (io), 22 PB11 (io), 23 VSS_1 (power), 24 VDD_1 (power), 25 PB12 (io), 26 PB13 (io), 27 PB14 (io), 28 PB15 (io), 29 PA8 (io), 30 PA9 (io), 31 PA10 (io), 32 PA11 (io), 33 PA12 (io), 34 PA13/JTMS/SWDIO (io), 35 VSS_2 (power), 36 VDD_2 (power), 37 PA14/JTCK/SWCLK (io), 38 PA15/JTDI (io), 39 PB3/JTDO (io), 40 PB4/JNTRST (io), 41 PB5 (io), 42 PB6 (io), 43 PB7 (io), 44 BOOT0 (in), 45 PB8 (io), 46 PB9 (io), 47 VSS_3 (power), 48 VDD_3 (power)

## STM32F103ZET6
designator U?
footprint LQFP144
pins: 1 PE2/TRACECK/FSMC_A23, 2 PE3/TRACED0/FSMC_A19, 3 PE4/TRACED1/FSMC_A20, 4 PE5/TRACED2/FSMC_A21, 5 PE6/TRACED3/FSMC_A22, 6 VBAT, 7 PC13-TAMPER-RTC, 8 PC14-OSC32_IN, 9 PC15-OSC32_OUT, 10 PF0/FSMC_A0, 11 PF1/FSMC_A1, 12 PF2/FSMC_A2, 13 PF3/FSMC_A3, 14 PF4/FSMC_A4, 15 PF5/FSMC_A5, 16 VSS, 17 VDD, 18 PF6/ADC3_IN4/FSMC_NIORD, 19 PF7/ADC3_IN5/FSMC_NREG, 20 PF8/ADC3_IN6/FSMC_NIOWR, 21 PF9/ADC3_IN7/FSMC_CD, 22 PF10/ADC3_IN8/FSMC_INTR, 23 OSC_IN, 24 OSC_OUT, 25 NRST, 26 PC0/ADC123_IN10, 27 PC1/ADC123_IN11, 28 PC2/ADC123_IN12, 29 PC3/ADC123_IN13, 30 VSSA, 31 Vref-, 32 Vref+, 33 VDDA, 34 PA0-WKUP/USART2_CTS/ADC123_IN0/TIM5_CH1/TIM2_CH1_ETR/TIM8_ETR, 35 PA1/USART2_RTS/ADC123_IN1/TIM5_CH2/TIM2_CH2, 36 PA2/USART2_TX/ADC123_IN2/TIM5_CH3/TIM2_CH3, 37 PA3/USART2_RX/ADC123_IN3/TIM5_CH4/TIM2_CH4, 38 VSS, 39 VDD, 40 PA4/SPI1_NSS/DAC_OUT1/USART2_CK/ADC12_IN4, 41 PA5/SPI1_SCK/DAC_OUT2/ADC12_IN5, 42 PA6/SPI1_MISO/TIM8_BKIN/ADC12_IN6/TIM3_CH1, 43 PA7/SPI1_MOSI/TIM8_CH1N/ADC12_IN7/TIM3_CH2, 44 PC4/ADC12_IN14, 45 PC5/ADC12_IN15, 46 PB0/ADC12_IN8/TIM3_CH3/TIM8_CH2N, 47 PB1/ADC12_IN9/TIM3_CH4/TIM8_CH3N, 48 PB2/BOOT1, 49 PF11/FSMC_NIOS16, 50 PF12/FSMC_A6, 51 VSS, 52 VDD, 53 PF13/FSMC_A7, 54 PF14/FSMC_A8, 55 PF15/FSMC_A9, 56 PG0/FSMC_A10, 57 PG1/FSMC_A11, 58 PE7/FSMC_D4, 59 PE8/FSMC_D5, 60 PE9/FSMC_D6, 61 VSS, 62 VDD, 63 PE10/FSMC_D7, 64 PE11/FSMC_D8, 65 PE12/FSMC_D9, 66 PE13/FSMC_D10, 67 PE14/FSMC_D11, 68 PE15/FSMC_D12, 69 PB10/I2C2_SCL/USART3_TX, 70 PB11/I2C2_SDA/USART3_RX, 71 VSS, 72 VDD, 73 PB12/SPI2_NSS/I2S2_WS/I2C2_SMBAI/USART3_CK/TIM1BKIN, 74 PB13/SPI2_SCK/I2S2_CK/USART3_CTS/TIM1_CH1N, 75 PB14/SPI2_MISO/USART3_RTS/TIM1_CH2N, 76 PB15/SPI2_MOSI/I2S2_SD/TIM1_CH3N, 77 PD8/FSMC_D13, 78 PD9/FSMC_D14, 79 PD10/FSMC_D15, 80 PD11/FSMC_A16, 81 PD12/FSMC_A17, 82 PD13/FSMC_A18, 83 VSS, 84 VDD, 85 PD14/FSMC_D0, 86 PD15/FSMC_D1, 87 PG2/FSMC_A12, 88 PG3/FSMC_A13, 89 PG4/FSMC_A14, 90 PG5/FSMC_A15, 91 PG6/FSMC_INT2, 92 PG7/FSMC_INT3, 93 PG8, 94 VSS, 95 VDD, 96 PC6/I2S2_MCK/TIM8_CH1/SDIO_D6, 97 PC7/I2S3_MCK/TIM8_CH2/SDIO_D7, 98 PC8/TIM8_CH3/SDIO_D0, 99 PC9/TIM8_CH4/SDIO_D1, 100 PA8/USART1_CK/TIM1_CH1/MCO, 101 PA9/USART1_TX/TIM1_CH2, 102 PA10/USART1_RX/TIM1_CH3, 103 PA11/USART1_CTS/CAN_RX/TIM1_CH4/USBDM, 104 PA12/USART1_RTS/CAN_TX/TIM1_ETR/USBDP, 105 PA13/JTMS_SWDIO, 106 NC, 107 VSS, 108 VDD, 109 PA14/JTCK_SWCLK, 110 PA15/JTDI/SPI3_NSS/I2S3_WS, 111 PC10/UART4_TX/SDIO_D2, 112 PC11/UART4_RX/SDIO_D3, 113 PC12/UART5_TX/SDIO_CK, 114 PD0/FSMC_D2, 115 PD1/FSMC_D3, 116 PD2/TIM3_ETR/UART5_RX/SDIO_CMD, 117 PD3/FSMC_CLK, 118 PD4/FSMC_NOE, 119 PD5/FSMC_NWE, 120 VSS, 121 VDD, 122 PD6/FSMC_NWAIT, 123 PD7/FSMC_NE1/FSMC_NCE2, 124 PG9/FSMC_NE2/FSMC_NCE3, 125 PG10/FSMC_NCE4_1/FSMC_NE3, 126 PG11/FSMC_NCE4_2, 127 PG12/FSMC_NE4, 128 PG13/FSMC_A24, 129 PG14/FSMC_A25, 130 VSS, 131 VDD, 132 PG15, 133 PB3/JTDO/TRACESWO/SPI3_SCK/I2S3_CK, 134 PB4/JNTRST/SPI3_MISO, 135 PB5/I2C1_SMBAI/SPI3_MOSI/I2S3_SD, 136 PB6/I2C1_SCL/TIM4_CH1, 137 PB7/I2C1_SDA/FSMC_NADV/TIM4_CH2, 138 BOOT0, 139 PB8/TIM4_CH3/SDIO_D4, 140 PB9/TIM4_CH4/SDIO_D5, 141 PE0/TIM4_ETR/FSMC_NBL0, 142 PE1/FSMC_NBL1, 143 VSS, 144 VDD

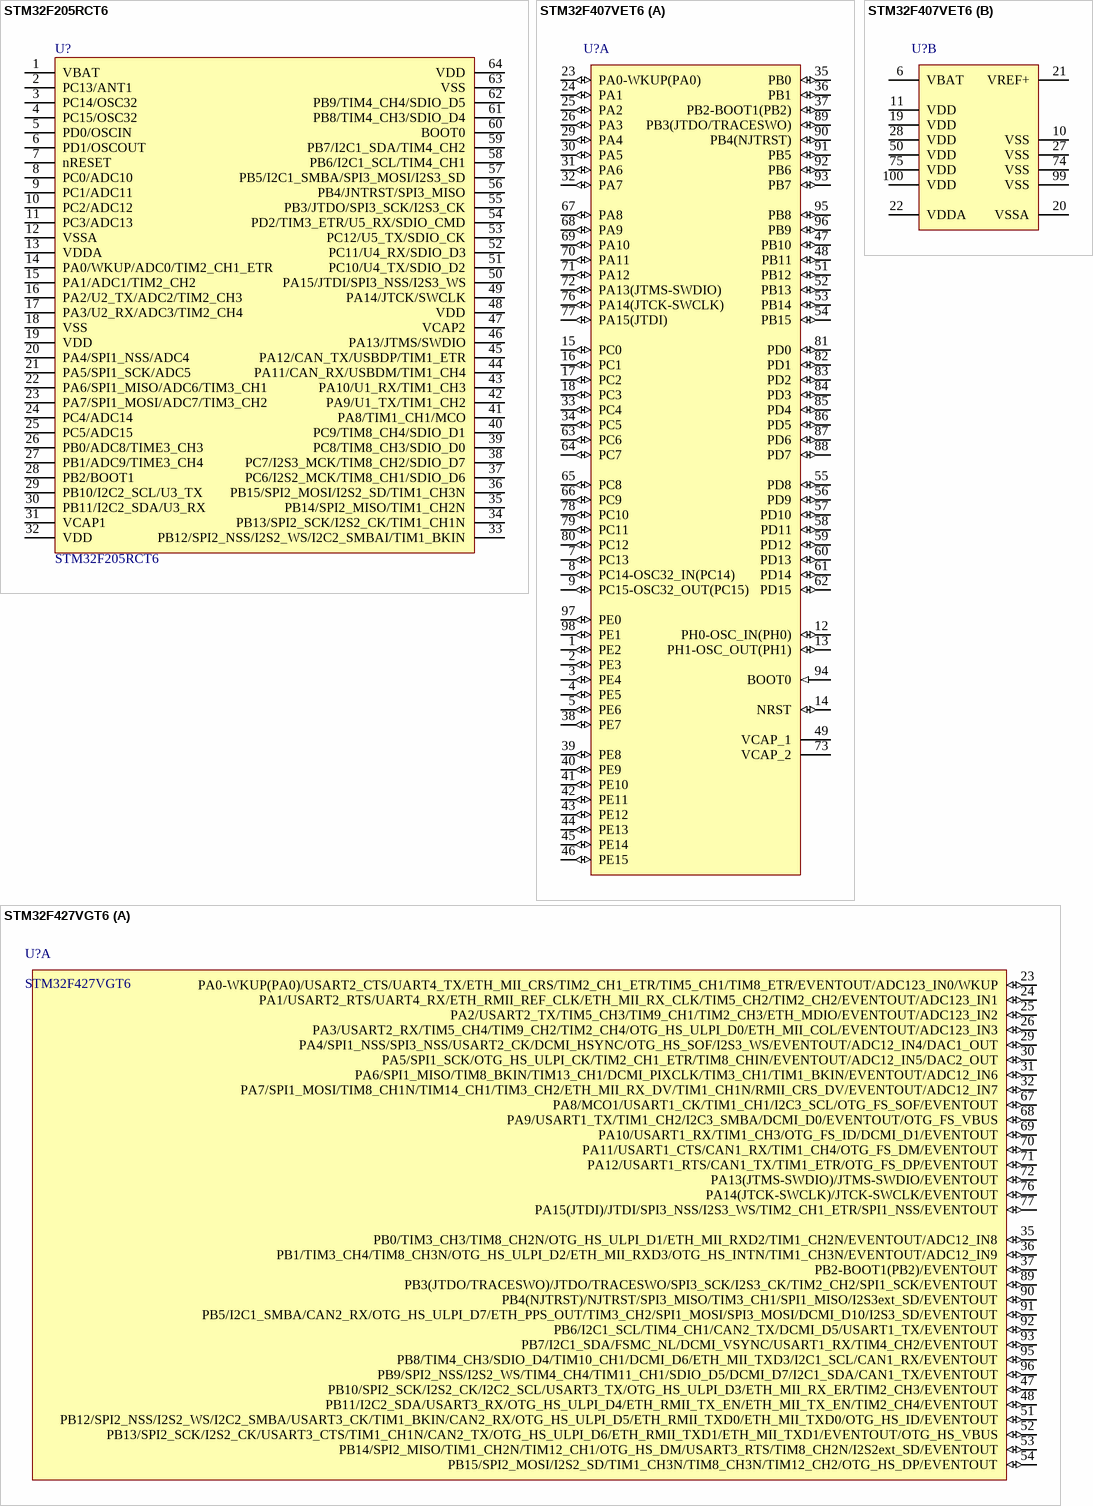
[diagram p6: symbols STM32F205RCT6 to STM32F427VGT6]

## STM32F205RCT6
designator U?
footprint LQFP64_L (Thin QFP, 64-Leads, Body 10x10mm, Pitch 0.5mm, IPC High Density)
footprint LQFP64_M (Thin QFP, 64-Leads, Body 10x10mm, Pitch 0.5mm, IPC Low Density)
footprint LQFP64_N (Thin QFP, 64-Leads, Body 10x10mm, Pitch 0.5mm, IPC Medium Density)
pins: 1 VBAT, 2 PC13/ANT1, 3 PC14/OSC32, 4 PC15/OSC32, 5 PD0/OSCIN, 6 PD1/OSCOUT, 7 nRESET, 8 PC0/ADC10, 9 PC1/ADC11, 10 PC2/ADC12, 11 PC3/ADC13, 12 VSSA, 13 VDDA, 14 PA0/WKUP/ADC0/TIM2_CH1_ETR, 15 PA1/ADC1/TIM2_CH2, 16 PA2/U2_TX/ADC2/TIM2_CH3, 17 PA3/U2_RX/ADC3/TIM2_CH4, 18 VSS, 19 VDD, 20 PA4/SPI1_NSS/ADC4, 21 PA5/SPI1_SCK/ADC5, 22 PA6/SPI1_MISO/ADC6/TIM3_CH1, 23 PA7/SPI1_MOSI/ADC7/TIM3_CH2, 24 PC4/ADC14, 25 PC5/ADC15, 26 PB0/ADC8/TIME3_CH3, 27 PB1/ADC9/TIME3_CH4, 28 PB2/BOOT1, 29 PB10/I2C2_SCL/U3_TX, 30 PB11/I2C2_SDA/U3_RX, 31 VCAP1, 32 VDD, 33 PB12/SPI2_NSS/I2S2_WS/I2C2_SMBAI/TIM1_BKIN, 34 PB13/SPI2_SCK/I2S2_CK/TIM1_CH1N, 35 PB14/SPI2_MISO/TIM1_CH2N, 36 PB15/SPI2_MOSI/I2S2_SD/TIM1_CH3N, 37 PC6/I2S2_MCK/TIM8_CH1/SDIO_D6, 38 PC7/I2S3_MCK/TIM8_CH2/SDIO_D7, 39 PC8/TIM8_CH3/SDIO_D0, 40 PC9/TIM8_CH4/SDIO_D1, 41 PA8/TIM1_CH1/MCO, 42 PA9/U1_TX/TIM1_CH2, 43 PA10/U1_RX/TIM1_CH3, 44 PA11/CAN_RX/USBDM/TIM1_CH4, 45 PA12/CAN_TX/USBDP/TIM1_ETR, 46 PA13/JTMS/SWDIO, 47 VCAP2, 48 VDD, 49 PA14/JTCK/SWCLK, 50 PA15/JTDI/SPI3_NSS/I2S3_WS, 51 PC10/U4_TX/SDIO_D2, 52 PC11/U4_RX/SDIO_D3, 53 PC12/U5_TX/SDIO_CK, 54 PD2/TIM3_ETR/U5_RX/SDIO_CMD, 55 PB3/JTDO/SPI3_SCK/I2S3_CK, 56 PB4/JNTRST/SPI3_MISO, 57 PB5/I2C1_SMBA/SPI3_MOSI/I2S3_SD, 58 PB6/I2C1_SCL/TIM4_CH1, 59 PB7/I2C1_SDA/TIM4_CH2, 60 BOOT0, 61 PB8/TIM4_CH3/SDIO_D4, 62 PB9/TIM4_CH4/SDIO_D5, 63 VSS, 64 VDD

## STM32F407VET6
designator U?
ARM Cortex-M4 32-bit MCU+FPU, 210 DMIPS, 512 kB Flash, 192 kB Internal RAM, 82 I/Os, 100-pin LQFP, -40 to 85 degC, Tray; Manufacturer: STMicroelectronics; PartNumber: STM32F407VET6; D/A Converter: 2x12-bit; FLASH Size (Prog) (kB): 512; I/Os (High Current): 82; Internal RAM Size (kB): 192; Operating Frequency(F) (Processor speed) (MHz): 168; Supply Voltage(Vcc) max (V): 3.6; Supply Voltage(Vcc) min (V): 1.8; DatasheetVersion: Rev. 4; PackageVersion: Rev. 1, 06/2013; PackageReference: LQFP100; PackageDescription: 100-Pin Low Profile Quad Flat Package, 14 x 14 mm Body, 0.5 mm Pitch; Supplier 1: Digi-Key; Supplier Part Number 1: 497-12075-ND; Supplier 2: Farnell; Supplier Part Number 2: 2064367; Supplier 3: Newark; Supplier Part Number 3: 73T2332; Supplier 4: Mouser; Supplier Part Number 4: 511-STM32F407VET6; Core: ARM Cortex-M4; Packing: Tray; Mounting Technology: Surface Mount; ComponentLink1Description: Manufacturer URL; ComponentLink1URL: http://www.st.com/web/en/home.html; ComponentLink2Description: Datasheet; ComponentLink2URL: http://www.st.com/st-web-ui/static/active/en/resource/technical/document/datasheet/DM00037051.pdf; ComponentLink3Description: Package Specification; ComponentLink3URL: http://www.st.com/st-web-ui/static/active/en/resource/technical/document/data_brief/DM00071938.pdf
footprint LQFP100_L (Thin QFP, 100-Leads, Body 14x14mm, Pitch 0.5mm, IPC High Density)
footprint LQFP100_M (Thin QFP, 100-Leads, Body 14x14mm, Pitch 0.5mm, IPC Low Density)
footprint LQFP100_N (Thin QFP, 100-Leads, Body 14x14mm, Pitch 0.5mm, IPC Medium Density)
footprint LQFP100_V (Thin QFP, 100-Leads, Body 14x14mm, Pitch 0.5mm, ST Recommended)
part A pins: 1 PE2 (io) "PE2/TRACECLK/FSMC_A23/ETH_MII_TXD3/EVENTOUT", 2 PE3 (io) "PE3/TRACED0/FSMC_A19/EVENTOUT", 3 PE4 (io) "PE4/TRACED1/FSMC_A20/DCMI_D4/EVENTOUT", 4 PE5 (io) "PE5/TRACED2/FSMC_A21/TIM9_CH1/DCMI_D6/EVENTOUT", 5 PE6 (io) "PE6/TRACED3/FSMC_A22/TIM9_CH2/DCMI_D7/EVENTOUT", 7 PC13 (io) "PC13/EVENTOUT/RTC_OUT,RTC_TAMP1,RTC_TS", 8 PC14-OSC32_IN(PC14) (io) "PC14-OSC32_IN(PC14)/EVENTOUT/OSC32_IN", 9 PC15-OSC32_OUT(PC15) (io) "PC15-OSC32_OUT(PC15)/EVENTOUT/OSC32_OUT", 12 PH0-OSC_IN(PH0) (io) "PH0-OSC_IN(PH0)/EVENTOUT/OSC_IN", 13 PH1-OSC_OUT(PH1) (io) "PH1-OSC_OUT(PH1)/EVENTOUT/OSC_OUT", 14 NRST (io), 15 PC0 (io) "PC0/OTG_HS_ULPI_STP/EVENTOUT/ADC123_IN10", 16 PC1 (io) "PC1/ETH_MDC/EVENTOUT/ADC123_IN11", 17 PC2 (io) "PC2/SPI2_MISO/OTG_HS_ULPI_DIR/ETH_MII_TXD2/I2S2ext_SD/EVENTOUT/ADC123_IN12", 18 PC3 (io) "PC3/SPI2_MOSI/I2S2_SD/OTG_HS_ULPI_NXT/ETH_MII_TX_CLK/EVENTOUT/ADC123_IN13", 23 PA0-WKUP(PA0) (io) "PA0-WKUP(PA0)/USART2_CTS/UART4_TX/ETH_MII_CRS/TIM2_CH1_ETR/TIM5_CH1/TIM8_ETR/EVENTOUT/ADC123_IN0/WKUP", 24 PA1 (io) "PA1/USART2_RTS/UART4_RX/ETH_RMII_REF_CLK/ETH_MII_RX_CLK/TIM5_CH2/TIM2_CH2/EVENTOUT/ADC123_IN1", 25 PA2 (io) "PA2/USART2_TX/TIM5_CH3/TIM9_CH1/TIM2_CH3/ETH_MDIO/EVENTOUT/ADC123_IN2", 26 PA3 (io) "PA3/USART2_RX/TIM5_CH4/TIM9_CH2/TIM2_CH4/OTG_HS_ULPI_D0/ETH_MII_COL/EVENTOUT/ADC123_IN3", 29 PA4 (io) "PA4/SPI1_NSS/SPI3_NSS/USART2_CK/DCMI_HSYNC/OTG_HS_SOF/I2S3_WS/EVENTOUT/ADC12_IN4/DAC_OUT1", 30 PA5 (io) "PA5/SPI1_SCK/OTG_HS_ULPI_CK/TIM2_CH1_ETR/TIM8_CH1N/EVENTOUT/ADC12_IN5/DAC_OUT2", 31 PA6 (io) "PA6/SPI1_MISO/TIM8_BKIN/TIM13_CH1/DCMI_PIXCLK/TIM3_CH1/TIM1_BKIN/EVENTOUT/ADC12_IN6", 32 PA7 (io) "PA7/SPI1_MOSI/TIM8_CH1N/TIM14_CH1/TIM3_CH2/ETH_MII_RX_DV/TIM1_CH1N/ETH_RMII_CRS_DV/EVENTOUT/ADC12_IN7", 33 PC4 (io) "PC4/ETH_RMII_RX_D0/ETH_MII_RX_D0/EVENTOUT/ADC12_IN14", 34 PC5 (io) "PC5/ETH_RMII_RX_D1/ETH_MII_RX_D1/EVENTOUT/ADC12_IN15", 35 PB0 (io) "PB0/TIM3_CH3/TIM8_CH2N/OTG_HS_ULPI_D1/ETH_MII_RXD2/TIM1_CH2N/EVENTOUT/ADC12_IN8", 36 PB1 (io) "PB1/TIM3_CH4/TIM8_CH3N/OTG_HS_ULPI_D2/ETH_MII_RXD3/TIM1_CH3N/EVENTOUT/ADC12_IN9", 37 PB2-BOOT1(PB2) (io) "PB2-BOOT1(PB2)/EVENTOUT", 38 PE7 (io) "PE7/FSMC_D4/TIM1_ETR/EVENTOUT", 39 PE8 (io) "PE8/FSMC_D5/TIM1_CH1N/EVENTOUT", 40 PE9 (io) "PE9/FSMC_D6/TIM1_CH1/EVENTOUT", 41 PE10 (io) "PE10/FSMC_D7/TIM1_CH2N/EVENTOUT", 42 PE11 (io) "PE11/FSMC_D8/TIM1_CH2/EVENTOUT", 43 PE12 (io) "PE12/FSMC_D9/TIM1_CH3N/EVENTOUT", 44 PE13 (io) "PE13/FSMC_D10/TIM1_CH3/EVENTOUT", 45 PE14 (io) "PE14/FSMC_D11/TIM1_CH4/EVENTOUT", 46 PE15 (io) "PE15/FSMC_D12/TIM1_BKIN/EVENTOUT", 47 PB10 (io) "PB10/SPI2_SCK/I2S2_CK/I2C2_SCL/USART3_TX/OTG_HS_ULPI_D3/ETH_MII_RX_ER/TIM2_CH3/EVENTOUT", 48 PB11 (io) "PB11/I2C2_SDA/USART3_RX/OTG_HS_ULPI_D4/ETH_RMII_TX_EN/ETH_MII_TX_EN/TIM2_CH4/EVENTOUT", 49 VCAP_1 (power), 51 PB12 (io) "PB12/SPI2_NSS/I2S2_WS/I2C2_SMBA/USART3_CK/TIM1_BKIN/CAN2_RX/OTG_HS_ULPI_D5/ETH_RMII_TXD0/ETH_MII_TXD0/OTG_HS_ID/EVENTOUT", 52 PB13 (io) "PB13/SPI2_SCK/I2S2_CK/USART3_CTS/TIM1_CH1N/CAN2_TX/OTG_HS_ULPI_D6/ETH_RMII_TXD1/ETH_MII_TXD1/EVENTOUT/OTG_HS_VBUS", 53 PB14 (io) "PB14/SPI2_MISO/TIM1_CH2N/TIM12_CH1/OTG_HS_DM/USART3_RTS/TIM8_CH2N/I2S2ext_SD/EVENTOUT", 54 PB15 (io) "PB15/SPI2_MOSI/I2S2_SD/TIM1_CH3N/TIM8_CH3N/TIM12_CH2/OTG_HS_DP/EVENTOUT/RTC_REFIN", 55 PD8 (io) "PD8/FSMC_D13/USART3_TX/EVENTOUT", 56 PD9 (io) "PD9/FSMC_D14/USART3_RX/EVENTOUT", 57 PD10 (io) "PD10/FSMC_D15/USART3_CK/EVENTOUT", 58 PD11 (io) "PD11/FSMC_CLE/FSMC_A16/USART3_CTS/EVENTOUT", 59 PD12 (io) "PD12/FSMC_ALE/FSMC_A17/TIM4_CH1/USART3_RTS/EVENTOUT", 60 PD13 (io) "PD13/FSMC_A18/TIM4_CH2/EVENTOUT", 61 PD14 (io) "PD14/FSMC_D0/TIM4_CH3/EVENTOUT", 62 PD15 (io) "PD15/FSMC_D1/TIM4_CH4/EVENTOUT", 63 PC6 (io) "PC6/I2S2_MCK/TIM8_CH1/SDIO_D6/USART6_TX/DCMI_D0/TIM3_CH1/EVENTOUT", 64 PC7 (io) "PC7/I2S3_MCK/TIM8_CH2/SDIO_D7/USART6_RX/DCMI_D1/TIM3_CH2/EVENTOUT", 65 PC8 (io) "PC8/TIM8_CH3/SDIO_D0/TIM3_CH3/USART6_CK/DCMI_D2/EVENTOUT", 66 PC9 (io) "PC9/I2S_CKIN/MCO2/TIM8_CH4/SDIO_D1/I2C3_SDA/DCMI_D3/TIM3_CH4/EVENTOUT", 67 PA8 (io) "PA8/MCO1/USART1_CK/TIM1_CH1/I2C3_SCL/OTG_FS_SOF/EVENTOUT", 68 PA9 (io) "PA9/USART1_TX/TIM1_CH2/I2C3_SMBA/DCMI_D0/EVENTOUT/OTG_FS_VBUS", 69 PA10 (io) "PA10/USART1_RX/TIM1_CH3/OTG_FS_ID/DCMI_D1/EVENTOUT", 70 PA11 (io) "PA11/USART1_CTS/CAN1_RX/TIM1_CH4/OTG_FS_DM/EVENTOUT", 71 PA12 (io) "PA12/USART1_RTS/CAN1_TX/TIM1_ETR/OTG_FS_DP/EVENTOUT", 72 PA13(JTMS-SWDIO) (io) "PA13(JTMS-SWDIO)/JTMS-SWDIO/EVENTOUT", 73 VCAP_2 (power), 76 PA14(JTCK-SWCLK) (io) "PA14(JTCK-SWCLK)/JTCK-SWCLK/EVENTOUT", 77 PA15(JTDI) (io) "PA15(JTDI)/JTDI/SPI3_NSS/I2S3_WS/TIM2_CH1_ETR/SPI1_NSS/EVENTOUT", 78 PC10 (io) "PC10/SPI3_SCK/I2S3_CK/UART4_TX/SDIO_D2/DCMI_D8/USART3_TX/EVENTOUT", 79 PC11 (io) "PC11/UART4_RX/SPI3_MISO/SDIO_D3/DCMI_D4/USART3_RX/I2S3ext_SD/EVENTOUT", 80 PC12 (io) "PC12/UART5_TX/SDIO_CK/DCMI_D9/SPI3_MOSI/I2S3_SD/USART3_CK/EVENTOUT", 81 PD0 (io) "PD0/FSMC_D2/CAN1_RX/EVENTOUT", 82 PD1 (io) "PD1/FSMC_D3/CAN1_TX/EVENTOUT", 83 PD2 (io) "PD2/TIM3_ETR/UART5_RX/SDIO_CMD/DCMI_D11/EVENTOUT", 84 PD3 (io) "PD3/FSMC_CLK/USART2_CTS/EVENTOUT", 85 PD4 (io) "PD4/FSMC_NOE/USART2_RTS/EVENTOUT", 86 PD5 (io) "PD5/FSMC_NWE/USART2_TX/EVENTOUT", 87 PD6 (io) "PD6/FSMC_NWAIT/USART2_RX/EVENTOUT", 88 PD7 (io) "PD7/USART2_CK/FSMC_NE1/FSMC_NCE2/EVENTOUT", 89 PB3(JTDO/TRACESWO) (io) "PB3(JTDO/TRACESWO)/JTDO/TRACESWO/SPI3_SCK/I2S3_CK/TIM2_CH2/SPI1_SCK/EVENTOUT", 90 PB4(NJTRST) (io) "PB4(NJTRST)/NJTRST/SPI3_MISO/TIM3_CH1/SPI1_MISO/I2S3ext_SD/EVENTOUT", 91 PB5 (io) "PB5/I2C1_SMBA/CAN2_RX/OTG_HS_ULPI_D7/ETH_PPS_OUT/TIM3_CH2/SPI1_MOSI/SPI3_MOSI/DCMI_D10/I2S3_SD/EVENTOUT", 92 PB6 (io) "PB6/I2C1_SCL/TIM4_CH1/CAN2_TX/DCMI_D5/USART1_TX/EVENTOUT", 93 PB7 (io) "PB7/I2C1_SDA/FSMC_NL/DCMI_VSYNC/USART1_RX/TIM4_CH2/EVENTOUT", 94 BOOT0 (in) "BOOT0/VPP", 95 PB8 (io) "PB8/TIM4_CH3/SDIO_D4/TIM10_CH1/DCMI_D6/ETH_MII_TXD3/I2C1_SCL/CAN1_RX/EVENTOUT", 96 PB9 (io) "PB9/SPI2_NSS/I2S2_WS/TIM4_CH4/TIM11_CH1/SDIO_D5/DCMI_D7/I2C1_SDA/CAN1_TX/EVENTOUT", 97 PE0 (io) "PE0/TIM4_ETR/FSMC_NBL0/DCMI_D2/EVENTOUT", 98 PE1 (io) "PE1/FSMC_NBL1/DCMI_D3/EVENTOUT"
part B pins: 6 VBAT (power), 10 VSS (power), 11 VDD (power), 19 VDD (power), 20 VSSA (power), 21 VREF+ (power), 22 VDDA (power), 27 VSS (power), 28 VDD (power), 50 VDD (power), 74 VSS (power), 75 VDD (power), 99 VSS (power), 100 VDD (power)

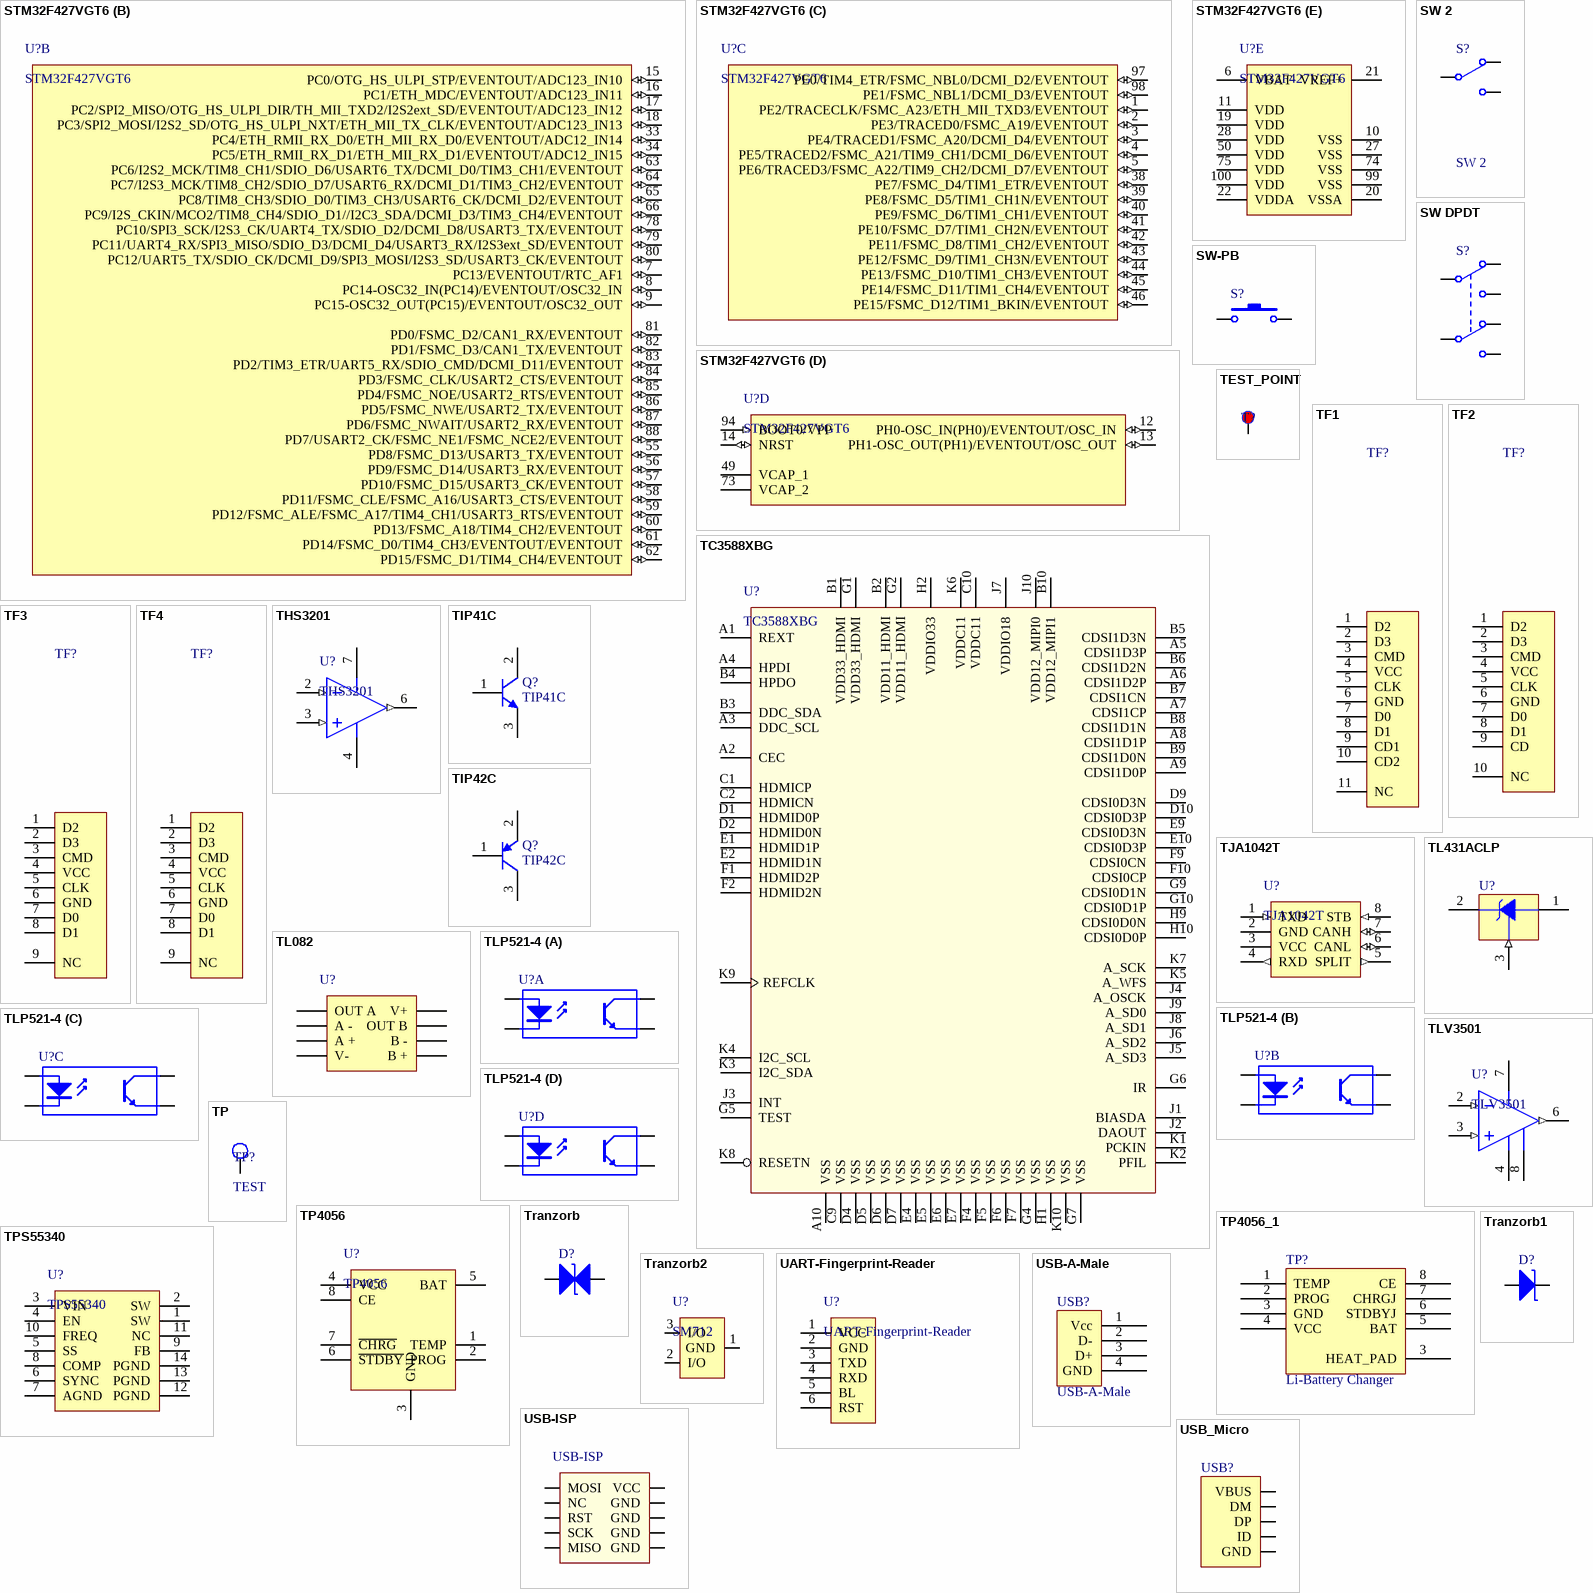
[diagram p7: symbols STM32F427VGT6 to USB_Micro]

## STM32F427VGT6
designator U?
Internal RAM: 192kB; Operating Frequency (Processor Speed): 168MHz; A/D Converter: 16x12-bit; D/A Converter: 2x12-bit; 16-bit Timers (IC/OC/PWM): 12x16-bit(24/24/30); 32-bit Timer (IC/OC/PWM): 2x32-bit (8/8/8); Other Timer Functions: 2xWDG, RTC, 24-bit down counter; Serial Interface: 3xSPI/2xI2S/2xI2C/3xUSART(IrDa, ISO7816)/3xUART/2xUSB OTG FS/HS, 2xCAN/Ethernet MAC10/100, SDIO; DatasheetVersion: rev2, Jan-2012; PackageVersion: 2012; PackageReference: LQFP100; PackageDescription: 100-Pin Low Profile Quad Flat Package, 14x14 mm Body, 0.5 mm Pitch; ComponentLink1Description: Manufacturer URL; ComponentLink1URL: http://www.st.com/; ComponentLink2Description: STM32F415/7 Datasheet; ComponentLink2URL: http://www.st.com/internet/com/TECHNICAL_RESOURCES/TECHNICAL_LITERATURE/DATASHEET/DM00035129.pdf; ComponentLink3Description: STM32F4 Web Page; ComponentLink3URL: http://www.st.com/internet/mcu/subclass/1521.jsp
footprint LQFP100_V (Thin QFP, 100-Leads, Body 14x14mm, Pitch 0.5mm, ST Recommended)
footprint LQFP100_N (Thin QFP, 100-Leads, Body 14x14mm, Pitch 0.5mm, IPC Medium Density)
footprint LQFP100_L (Thin QFP, 100-Leads, Body 14x14mm, Pitch 0.5mm, IPC High Density)
footprint LQFP100_M (Thin QFP, 100-Leads, Body 14x14mm, Pitch 0.5mm, IPC Low Density)
part A pins: 23 PA0-WKUP(PA0)/USART2_CTS/UART4_TX/ETH_MII_CRS/TIM2_CH1_ETR/TIM5_CH1/TIM8_ETR/EVENTOUT/ADC123_IN0/WKUP (io), 24 PA1/USART2_RTS/UART4_RX/ETH_RMII_REF_CLK/ETH_MII_RX_CLK/TIM5_CH2/TIM2_CH2/EVENTOUT/ADC123_IN1 (io), 25 PA2/USART2_TX/TIM5_CH3/TIM9_CH1/TIM2_CH3/ETH_MDIO/EVENTOUT/ADC123_IN2 (io), 26 PA3/USART2_RX/TIM5_CH4/TIM9_CH2/TIM2_CH4/OTG_HS_ULPI_D0/ETH_MII_COL/EVENTOUT/ADC123_IN3 (io), 29 PA4/SPI1_NSS/SPI3_NSS/USART2_CK/DCMI_HSYNC/OTG_HS_SOF/I2S3_WS/EVENTOUT/ADC12_IN4/DAC1_OUT (io), 30 PA5/SPI1_SCK/OTG_HS_ULPI_CK/TIM2_CH1_ETR/TIM8_CHIN/EVENTOUT/ADC12_IN5/DAC2_OUT (io), 31 PA6/SPI1_MISO/TIM8_BKIN/TIM13_CH1/DCMI_PIXCLK/TIM3_CH1/TIM1_BKIN/EVENTOUT/ADC12_IN6 (io), 32 PA7/SPI1_MOSI/TIM8_CH1N/TIM14_CH1/TIM3_CH2/ETH_MII_RX_DV/TIM1_CH1N/RMII_CRS_DV/EVENTOUT/ADC12_IN7 (io), 35 PB0/TIM3_CH3/TIM8_CH2N/OTG_HS_ULPI_D1/ETH_MII_RXD2/TIM1_CH2N/EVENTOUT/ADC12_IN8 (io), 36 PB1/TIM3_CH4/TIM8_CH3N/OTG_HS_ULPI_D2/ETH_MII_RXD3/OTG_HS_INTN/TIM1_CH3N/EVENTOUT/ADC12_IN9 (io), 37 PB2-BOOT1(PB2)/EVENTOUT (io), 47 PB10/SPI2_SCK/I2S2_CK/I2C2_SCL/USART3_TX/OTG_HS_ULPI_D3/ETH_MII_RX_ER/TIM2_CH3/EVENTOUT (io), 48 PB11/I2C2_SDA/USART3_RX/OTG_HS_ULPI_D4/ETH_RMII_TX_EN/ETH_MII_TX_EN/TIM2_CH4/EVENTOUT (io), 51 PB12/SPI2_NSS/I2S2_WS/I2C2_SMBA/USART3_CK/TIM1_BKIN/CAN2_RX/OTG_HS_ULPI_D5/ETH_RMII_TXD0/ETH_MII_TXD0/OTG_HS_ID/EVENTOUT (io), 52 PB13/SPI2_SCK/I2S2_CK/USART3_CTS/TIM1_CH1N/CAN2_TX/OTG_HS_ULPI_D6/ETH_RMII_TXD1/ETH_MII_TXD1/EVENTOUT/OTG_HS_VBUS (io), 53 PB14/SPI2_MISO/TIM1_CH2N/TIM12_CH1/OTG_HS_DM/USART3_RTS/TIM8_CH2N/I2S2ext_SD/EVENTOUT (io), 54 PB15/SPI2_MOSI/I2S2_SD/TIM1_CH3N/TIM8_CH3N/TIM12_CH2/OTG_HS_DP/EVENTOUT (io), 67 PA8/MCO1/USART1_CK/TIM1_CH1/I2C3_SCL/OTG_FS_SOF/EVENTOUT (io), 68 PA9/USART1_TX/TIM1_CH2/I2C3_SMBA/DCMI_D0/EVENTOUT/OTG_FS_VBUS (io), 69 PA10/USART1_RX/TIM1_CH3/OTG_FS_ID/DCMI_D1/EVENTOUT (io), 70 PA11/USART1_CTS/CAN1_RX/TIM1_CH4/OTG_FS_DM/EVENTOUT (io), 71 PA12/USART1_RTS/CAN1_TX/TIM1_ETR/OTG_FS_DP/EVENTOUT (io), 72 PA13(JTMS-SWDIO)/JTMS-SWDIO/EVENTOUT (io), 76 PA14(JTCK-SWCLK)/JTCK-SWCLK/EVENTOUT (io), 77 PA15(JTDI)/JTDI/SPI3_NSS/I2S3_WS/TIM2_CH1_ETR/SPI1_NSS/EVENTOUT (io), 89 PB3(JTDO/TRACESWO)/JTDO/TRACESWO/SPI3_SCK/I2S3_CK/TIM2_CH2/SPI1_SCK/EVENTOUT (io), 90 PB4(NJTRST)/NJTRST/SPI3_MISO/TIM3_CH1/SPI1_MISO/I2S3ext_SD/EVENTOUT (io), 91 PB5/I2C1_SMBA/CAN2_RX/OTG_HS_ULPI_D7/ETH_PPS_OUT/TIM3_CH2/SPI1_MOSI/SPI3_MOSI/DCMI_D10/I2S3_SD/EVENTOUT (io), 92 PB6/I2C1_SCL/TIM4_CH1/CAN2_TX/DCMI_D5/USART1_TX/EVENTOUT (io), 93 PB7/I2C1_SDA/FSMC_NL/DCMI_VSYNC/USART1_RX/TIM4_CH2/EVENTOUT (io), 95 PB8/TIM4_CH3/SDIO_D4/TIM10_CH1/DCMI_D6/ETH_MII_TXD3/I2C1_SCL/CAN1_RX/EVENTOUT (io), 96 PB9/SPI2_NSS/I2S2_WS/TIM4_CH4/TIM11_CH1/SDIO_D5/DCMI_D7/I2C1_SDA/CAN1_TX/EVENTOUT (io)
part B pins: 7 PC13/EVENTOUT/RTC_AF1 (io), 8 PC14-OSC32_IN(PC14)/EVENTOUT/OSC32_IN (io), 9 PC15-OSC32_OUT(PC15)/EVENTOUT/OSC32_OUT (io), 15 PC0/OTG_HS_ULPI_STP/EVENTOUT/ADC123_IN10 (io), 16 PC1/ETH_MDC/EVENTOUT/ADC123_IN11 (io), 17 PC2/SPI2_MISO/OTG_HS_ULPI_DIR/TH_MII_TXD2/I2S2ext_SD/EVENTOUT/ADC123_IN12 (io), 18 PC3/SPI2_MOSI/I2S2_SD/OTG_HS_ULPI_NXT/ETH_MII_TX_CLK/EVENTOUT/ADC123_IN13 (io), 33 PC4/ETH_RMII_RX_D0/ETH_MII_RX_D0/EVENTOUT/ADC12_IN14 (io), 34 PC5/ETH_RMII_RX_D1/ETH_MII_RX_D1/EVENTOUT/ADC12_IN15 (io), 55 PD8/FSMC_D13/USART3_TX/EVENTOUT (io), 56 PD9/FSMC_D14/USART3_RX/EVENTOUT (io), 57 PD10/FSMC_D15/USART3_CK/EVENTOUT (io), 58 PD11/FSMC_CLE/FSMC_A16/USART3_CTS/EVENTOUT (io), 59 PD12/FSMC_ALE/FSMC_A17/TIM4_CH1/USART3_RTS/EVENTOUT (io), 60 PD13/FSMC_A18/TIM4_CH2/EVENTOUT (io), 61 PD14/FSMC_D0/TIM4_CH3/EVENTOUT/EVENTOUT (io), 62 PD15/FSMC_D1/TIM4_CH4/EVENTOUT (io), 63 PC6/I2S2_MCK/TIM8_CH1/SDIO_D6/USART6_TX/DCMI_D0/TIM3_CH1/EVENTOUT (io), 64 PC7/I2S3_MCK/TIM8_CH2/SDIO_D7/USART6_RX/DCMI_D1/TIM3_CH2/EVENTOUT (io), 65 PC8/TIM8_CH3/SDIO_D0/TIM3_CH3/USART6_CK/DCMI_D2/EVENTOUT (io), 66 PC9/I2S_CKIN/MCO2/TIM8_CH4/SDIO_D1//I2C3_SDA/DCMI_D3/TIM3_CH4/EVENTOUT (io), 78 PC10/SPI3_SCK/I2S3_CK/UART4_TX/SDIO_D2/DCMI_D8/USART3_TX/EVENTOUT (io), 79 PC11/UART4_RX/SPI3_MISO/SDIO_D3/DCMI_D4/USART3_RX/I2S3ext_SD/EVENTOUT (io), 80 PC12/UART5_TX/SDIO_CK/DCMI_D9/SPI3_MOSI/I2S3_SD/USART3_CK/EVENTOUT (io), 81 PD0/FSMC_D2/CAN1_RX/EVENTOUT (io), 82 PD1/FSMC_D3/CAN1_TX/EVENTOUT (io), 83 PD2/TIM3_ETR/UART5_RX/SDIO_CMD/DCMI_D11/EVENTOUT (io), 84 PD3/FSMC_CLK/USART2_CTS/EVENTOUT (io), 85 PD4/FSMC_NOE/USART2_RTS/EVENTOUT (io), 86 PD5/FSMC_NWE/USART2_TX/EVENTOUT (io), 87 PD6/FSMC_NWAIT/USART2_RX/EVENTOUT (io), 88 PD7/USART2_CK/FSMC_NE1/FSMC_NCE2/EVENTOUT (io)
part C pins: 1 PE2/TRACECLK/FSMC_A23/ETH_MII_TXD3/EVENTOUT (io), 2 PE3/TRACED0/FSMC_A19/EVENTOUT (io), 3 PE4/TRACED1/FSMC_A20/DCMI_D4/EVENTOUT (io), 4 PE5/TRACED2/FSMC_A21/TIM9_CH1/DCMI_D6/EVENTOUT (io), 5 PE6/TRACED3/FSMC_A22/TIM9_CH2/DCMI_D7/EVENTOUT (io), 38 PE7/FSMC_D4/TIM1_ETR/EVENTOUT (io), 39 PE8/FSMC_D5/TIM1_CH1N/EVENTOUT (io), 40 PE9/FSMC_D6/TIM1_CH1/EVENTOUT (io), 41 PE10/FSMC_D7/TIM1_CH2N/EVENTOUT (io), 42 PE11/FSMC_D8/TIM1_CH2/EVENTOUT (io), 43 PE12/FSMC_D9/TIM1_CH3N/EVENTOUT (io), 44 PE13/FSMC_D10/TIM1_CH3/EVENTOUT (io), 45 PE14/FSMC_D11/TIM1_CH4/EVENTOUT (io), 46 PE15/FSMC_D12/TIM1_BKIN/EVENTOUT (io), 97 PE0/TIM4_ETR/FSMC_NBL0/DCMI_D2/EVENTOUT (io), 98 PE1/FSMC_NBL1/DCMI_D3/EVENTOUT (io)
part D pins: 12 PH0-OSC_IN(PH0)/EVENTOUT/OSC_IN (io), 13 PH1-OSC_OUT(PH1)/EVENTOUT/OSC_OUT (io), 14 NRST (io), 49 VCAP_1 (power), 73 VCAP_2 (power), 94 BOOT0/VPP (in)
part E pins: 6 VBAT (power), 10 VSS (power), 11 VDD (power), 19 VDD (power), 20 VSSA (power), 21 VREF+ (power), 22 VDDA (power), 27 VSS (power), 28 VDD (power), 50 VDD (power), 74 VSS (power), 75 VDD (power), 99 VSS (power), 100 VDD (power)

## SW 2
designator S?
Switch; Published: 24-Mar-1999; LatestRevisionDate: 29-May-2009; LatestRevisionNote: IPC-7351 Footprint Added.; PackageVersion: Mar-2001; PackageReference: SOT23-6; Publisher: Altium Limited; PackageDescription: 6-Pin SOT-23 Package 0.95 mm Pitch, 2.7 mm Lead Span; Code_JEITA: SC-74; Code_IPC: SOT26A-6
footprint SW_2 (卧式两段拨动开关)
footprint MSK-12C01-07
pins: 1, 2, 3

## SW DPDT
designator S?
Switch; Published: 24-Mar-1999; LatestRevisionDate: 29-May-2009; LatestRevisionNote: IPC-7351 Footprint Added.; PackageVersion: Mar-2001; PackageReference: SOT23-6; Publisher: Altium Limited; PackageDescription: 6-Pin SOT-23 Package 0.95 mm Pitch, 2.7 mm Lead Span; Code_JEITA: SC-74; Code_IPC: SOT26A-6
footprint DPDT-6 x 2.0 (Switch; 6 Leads)
footprint DPDT-6 x 2.54 (Switch; 6 Leads)
pins: 1, 2, 3, 4, 5, 6

## SW-PB
designator S?
Switch; Published: 24-Mar-1999; LatestRevisionDate: 17-Jul-2002; LatestRevisionNote: Re-released for DXP Platform.; PackageReference: SPST-2; Publisher: Altium Limited; PackageDescription: Switch; 2 Leads
footprint SW-3x6 (3x6x2.5mm)
footprint YD-3410
pins: 1, 2

## TC3588XBG
designator U?
footprint TC358870XBG (BGA, 80-Leads, Body 7.00x7.00mmx1.00mm, Pitch 0.65mm)
pins: A1 REXT, A2 CEC, A3 DDC_SCL, A4 HPDI, A5 CDSI1D3P, A6 CDSI1D2P, A7 CDSI1CP, A8 CDSI1D1P, A9 CDSI1D0P, A10 VSS, B1 VDD33_HDMI, B2 VDD11_HDMI, B3 DDC_SDA, B4 HPDO, B5 CDSI1D3N, B6 CDSI1D2N, B7 CDSI1CN, B8 CDSI1D1N, B9 CDSI1D0N, B10 VDD12_MIPI1, C1 HDMICP, C2 HDMICN, C9 VSS, C10 VDDC11, D1 HDMID0P, D2 HDMID0N, D4 VSS, D5 VSS, D6 VSS, D7 VSS, D9 CDSI0D3N, D10 CDSI0D3P, E1 HDMID1P, E2 HDMID1N, E4 VSS, E5 VSS, E6 VSS, E7 VSS, E9 CDSI0D3N, E10 CDSI0D3P, F1 HDMID2P, F2 HDMID2N, F4 VSS, F5 VSS, F6 VSS, F7 VSS, F9 CDSI0CN, F10 CDSI0CP, G1 VDD33_HDMI, G2 VDD11_HDMI, G4 VSS, G5 TEST, G6 IR, G7 VSS, G9 CDSI0D1N, G10 CDSI0D1P, H1 VSS, H2 VDDIO33, H9 CDSI0D0N, H10 CDSI0D0P, J1 BIASDA, J2 DAOUT, J3 INT, J4 A_OSCK, J5 A_SD3, J6 A_SD2, J7 VDDIO18, J8 A_SD1, J9 A_SD0, J10 VDD12_MIPI0, K1 PCKIN, K2 PFIL, K3 I2C_SDA, K4 I2C_SCL, K5 A_WFS, K6 VDDC11, K7 A_SCK, K8 RESETN, K9 REFCLK, K10 VSS

## TEST_POINT
designator T?  (value not drawn)
测试点
footprint TEST_POINT_0.8 (测试点)
pins: 1

## TF1
designator TF?, comment TF  (value not drawn)
footprint TF-1
pins: 1 D2, 2 D3, 3 CMD, 4 VCC, 5 CLK, 6 GND, 7 D0, 8 D1, 9 CD1, 10 CD2, 11 NC

## TF2
designator TF?, comment TF  (value not drawn)
footprint TF-2
pins: 1 D2, 2 D3, 3 CMD, 4 VCC, 5 CLK, 6 GND, 7 D0, 8 D1, 9 CD, 10 NC

## TF3
designator TF?, comment TF  (value not drawn)
footprint TF-3
pins: 1 D2, 2 D3, 3 CMD, 4 VCC, 5 CLK, 6 GND, 7 D0, 8 D1, 9 NC

## TF4
designator TF?, comment TF  (value not drawn)
footprint TF-4
pins: 1 D2, 2 D3, 3 CMD, 4 VCC, 5 CLK, 6 GND, 7 D0, 8 D1, 9 NC

## THS3201
designator U?
footprint SOP8_M (SOIC, 8-Leads, Body 4.9x3.9mm, Pitch 1.27mm, IPC Low Density)
footprint SOP8_L (SOIC, 8-Leads, Body 4.9x3.9mm, Pitch 1.27mm, IPC High Density)
footprint SOP8_N (SOIC, 8-Leads, Body 4.9x3.9mm, Pitch 1.27mm, IPC Medium Density)
pins: 2 IN- (in), 3 IN+ (in), 4 V- (power), 6 OUT (out), 7 V+ (power)

## TIP41C
designator Q?
NPN Bipolar Transistor; Published: 8-Jun-2000; LatestRevisionDate: 17-Jul-2002; LatestRevisionNote: Re-released for DXP Platform.; PackageReference: TO-226-AA; Publisher: Altium Limited; PackageDescription: TO, Flat Index; 3 In-Line, Axial Leads; Body Dia. 4.8mm; Leads 0.55 x 0.51 mm (max); Code_JEDEC: TO-226-AA
footprint TO-220AB (TO, Thru-Hole, Vertical, Heatsink Mounted; 3 In-Line Leads; Pitch 2.54 mm)
pins: 1 B, 2 C, 3 E

## TIP42C
designator Q?
NPN Bipolar Transistor; Published: 8-Jun-2000; LatestRevisionDate: 17-Jul-2002; LatestRevisionNote: Re-released for DXP Platform.; PackageReference: TO-226-AA; Publisher: Altium Limited; PackageDescription: TO, Flat Index; 3 In-Line, Axial Leads; Body Dia. 4.8mm; Leads 0.55 x 0.51 mm (max); Code_JEDEC: TO-226-AA
footprint TO-220AB (TO, Thru-Hole, Vertical, Heatsink Mounted; 3 In-Line Leads; Pitch 2.54 mm)
pins: 1 B, 2 E, 3 C